# Altium schematic symbol library Connectors.SchLib: 163 symbols
Pins are listed as number, name and electrical type; pins without a type are passive.

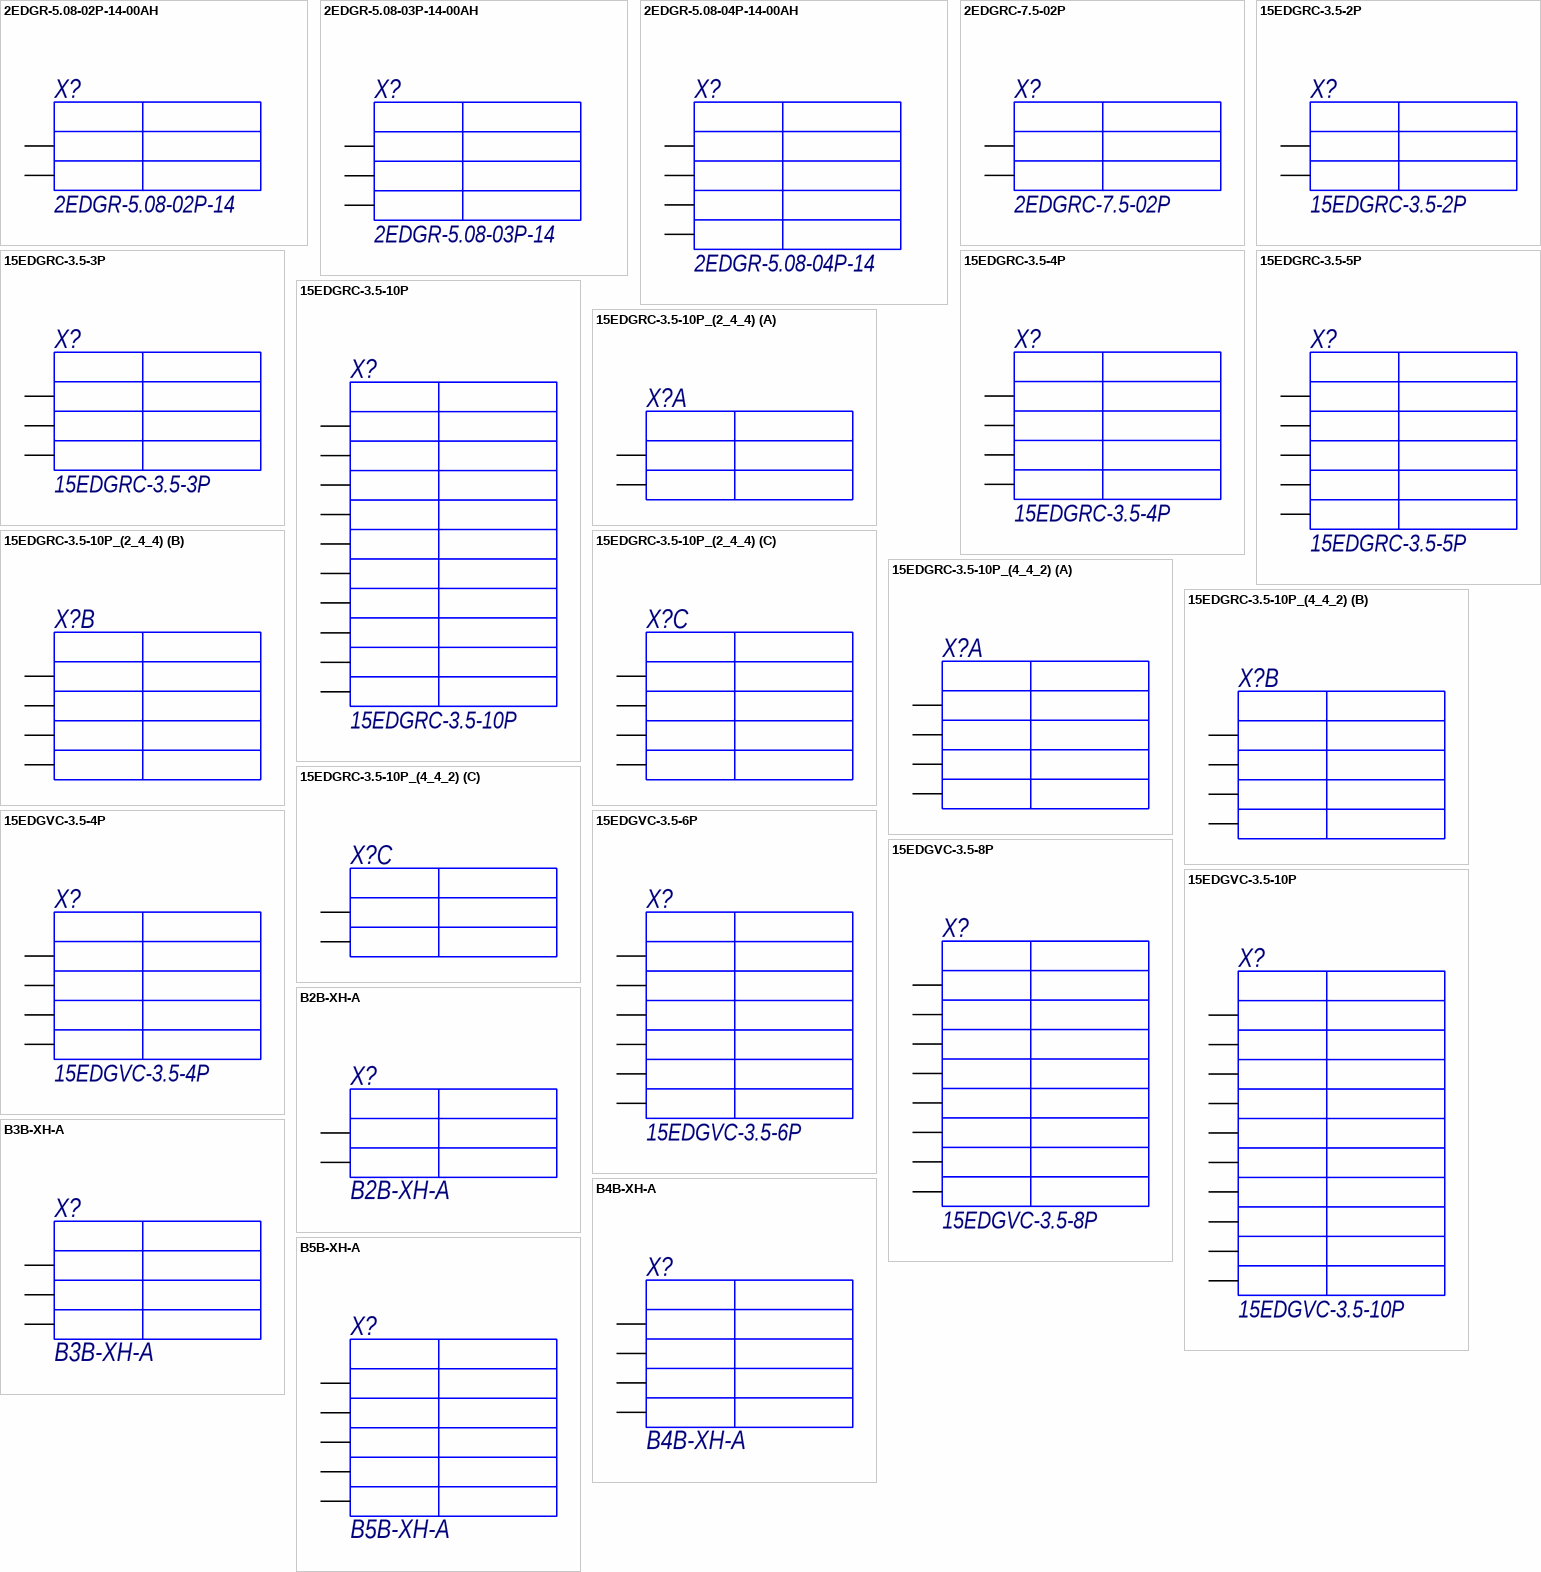
[diagram p0: symbols 2EDGR-5.08-02P-14-00AH to B5B-XH-A]

## 2EDGR-5.08-02P-14-00AH
designator X?, comment 2EDGR-5.08-02P-14
Разъем разрывной; ComponentDescription: Разъём, 2EDGR-5.08-02P-14; ComponentTypе: Разъём
footprint 2EDGR-5.08-02P-14-00AH
pins: 1, 2

## 2EDGR-5.08-03P-14-00AH
designator X?, comment 2EDGR-5.08-03P-14
Разъем разрывной; ComponentDescription: Разъём, 2EDGR-5.08-03P-14; ComponentTypе: Разъём
footprint 2EDGR-5.08-03P-14-00AH
pins: 1, 2, 3

## 2EDGR-5.08-04P-14-00AH
designator X?, comment 2EDGR-5.08-04P-14
Разъем разрывной; ComponentDescription: Разъём, 2EDGR-5.08-04P-14; ComponentTypе: Разъём
footprint 2EDGR-5.08-04P-14-00AH
pins: 1, 2, 3, 4

## 2EDGRC-7.5-02P
designator X?
Разъем разрывной; ComponentDescription: Разъём, 2EDGRC-7.5-02P; ComponentTypе: Разъём
footprint 2EDGRC-7.5-02P
pins: 1, 2

## 15EDGRC-3.5-2P
designator X?
Разъем разрывной; ComponentDescription: Разъем разрывной, 15EDGRC-3.5-2P; ComponentTypе: Разъем разрывной
footprint 15EDGRC-3.5-2P-PAK
pins: 1, 2

## 15EDGRC-3.5-3P
designator X?
Разъем разрывной; ComponentDescription: Разъем разрывной, 15EDGRC-3.5-3P; ComponentTypе: Разъем разрывной
footprint 15EDGRC-3.5-3P-PAK
pins: 1, 2, 3

## 15EDGRC-3.5-4P
designator X?
Разъем разрывной; ComponentDescription: Разъем разрывной, 15EDGRC-3.5-4P; ComponentTypе: Разъем разрывной
footprint 15EDGRC-3.5-4P-PAK
pins: 1, 2, 3, 4

## 15EDGRC-3.5-5P
designator X?
Разъем разрывной; ComponentDescription: Разъем разрывной, 15EDGRC-3.5-5P; ComponentTypе: Разъем разрывной
footprint 15EDGRC-3.5-5P-PAK
pins: 1, 2, 3, 4, 5

## 15EDGRC-3.5-10P
designator X?
Разъем разрывной; ComponentDescription: Разъем разрывной, 15EDGRC-3.5-10P; ComponentTypе: Разъем разрывной
footprint 15EDGRC-3.5-10P-PAK
pins: 1, 2, 3, 4, 5, 6, 7, 8, 9, 10

## 15EDGRC-3.5-10P_(2_4_4)
designator X?, comment 15EDGRC-3.5-10P  (value not drawn)
Разъем разрывной; ComponentDescription: Разъем разрывной, 15EDGRC-3.5-10P; ComponentTypе: Разъем разрывной
footprint 15EDGRC-3.5-10P-PAK
part A pins: 1, 2
part B pins: 3, 4, 5, 6
part C pins: 7, 8, 9, 10

## 15EDGRC-3.5-10P_(4_4_2)
designator X?, comment 15EDGRC-3.5-10P  (value not drawn)
Разъем разрывной; ComponentDescription: Разъем разрывной, 15EDGRC-3.5-10P; ComponentTypе: Разъем разрывной
footprint 15EDGRC-3.5-10P-PAK
part A pins: 1, 2, 3, 4
part B pins: 5, 6, 7, 8
part C pins: 9, 10

## 15EDGVC-3.5-4P
designator X?
Разъем разрывной; ComponentDescription: Разъем разрывной, 15EDGVC-3.5-4P; ComponentTypе: Разъем разрывной
footprint 15EDGVC-3.5-04P-14
footprint 15EDGVC-3.5-04P-14_FULL_KA
pins: 1, 2, 3, 4

## 15EDGVC-3.5-6P
designator X?
Разъем разрывной; ComponentDescription: Разъем разрывной, 15EDGVC-3.5-6P; ComponentTypе: Разъем разрывной
footprint 15EDGVC-3.5-06P-14
footprint 15EDGVC-3.5-06P-14_FULL_KA
pins: 1, 2, 3, 4, 5, 6

## 15EDGVC-3.5-8P
designator X?
Разъем разрывной; ComponentDescription: Разъем разрывной, 15EDGVC-3.5-8P; ComponentTypе: Разъем разрывной
footprint 15EDGVC-3.5-08P-14
footprint 15EDGVC-3.5-08P-14 _FULL_KA
pins: 1, 2, 3, 4, 5, 6, 7, 8

## 15EDGVC-3.5-10P
designator X?
Разъем разрывной; ComponentDescription: Разъем разрывной, 15EDGVC-3.5-10P; ComponentTypе: Разъем разрывной
footprint 15EDGVC-3.5-10P-14
footprint 15EDGVC-3.5-10P-14_FULL_KA
pins: 1, 2, 3, 4, 5, 6, 7, 8, 9, 10

## B2B-XH-A
designator X?
Разъём; ComponentDescription: Разъём, B2B-XH-A; ComponentTypе: Разъём
footprint B2B-XH-A (Вилка прямая на плату 2.5мм)
pins: 1, 2

## B3B-XH-A
designator X?
Разъём; ComponentDescription: Разъём, B3B-XH-A; ComponentTypе: Разъём
footprint B3B-XH-A (Вилка прямая на плату 2.5мм)
pins: 1, 2, 3

## B4B-XH-A
designator X?
Разъём; ComponentDescription: Разъём, B4B-XH-A; ComponentTypе: Разъём
footprint B4B-XH-A (Вилка прямая на плату 2.5мм)
pins: 1, 2, 3, 4

## B5B-XH-A
designator X?
Разъём; ComponentDescription: Разъём, B5B-XH-A; ComponentTypе: Разъём
footprint B5B-XH-A (Вилка прямая на плату 2.5мм)
pins: 1, 2, 3, 4, 5

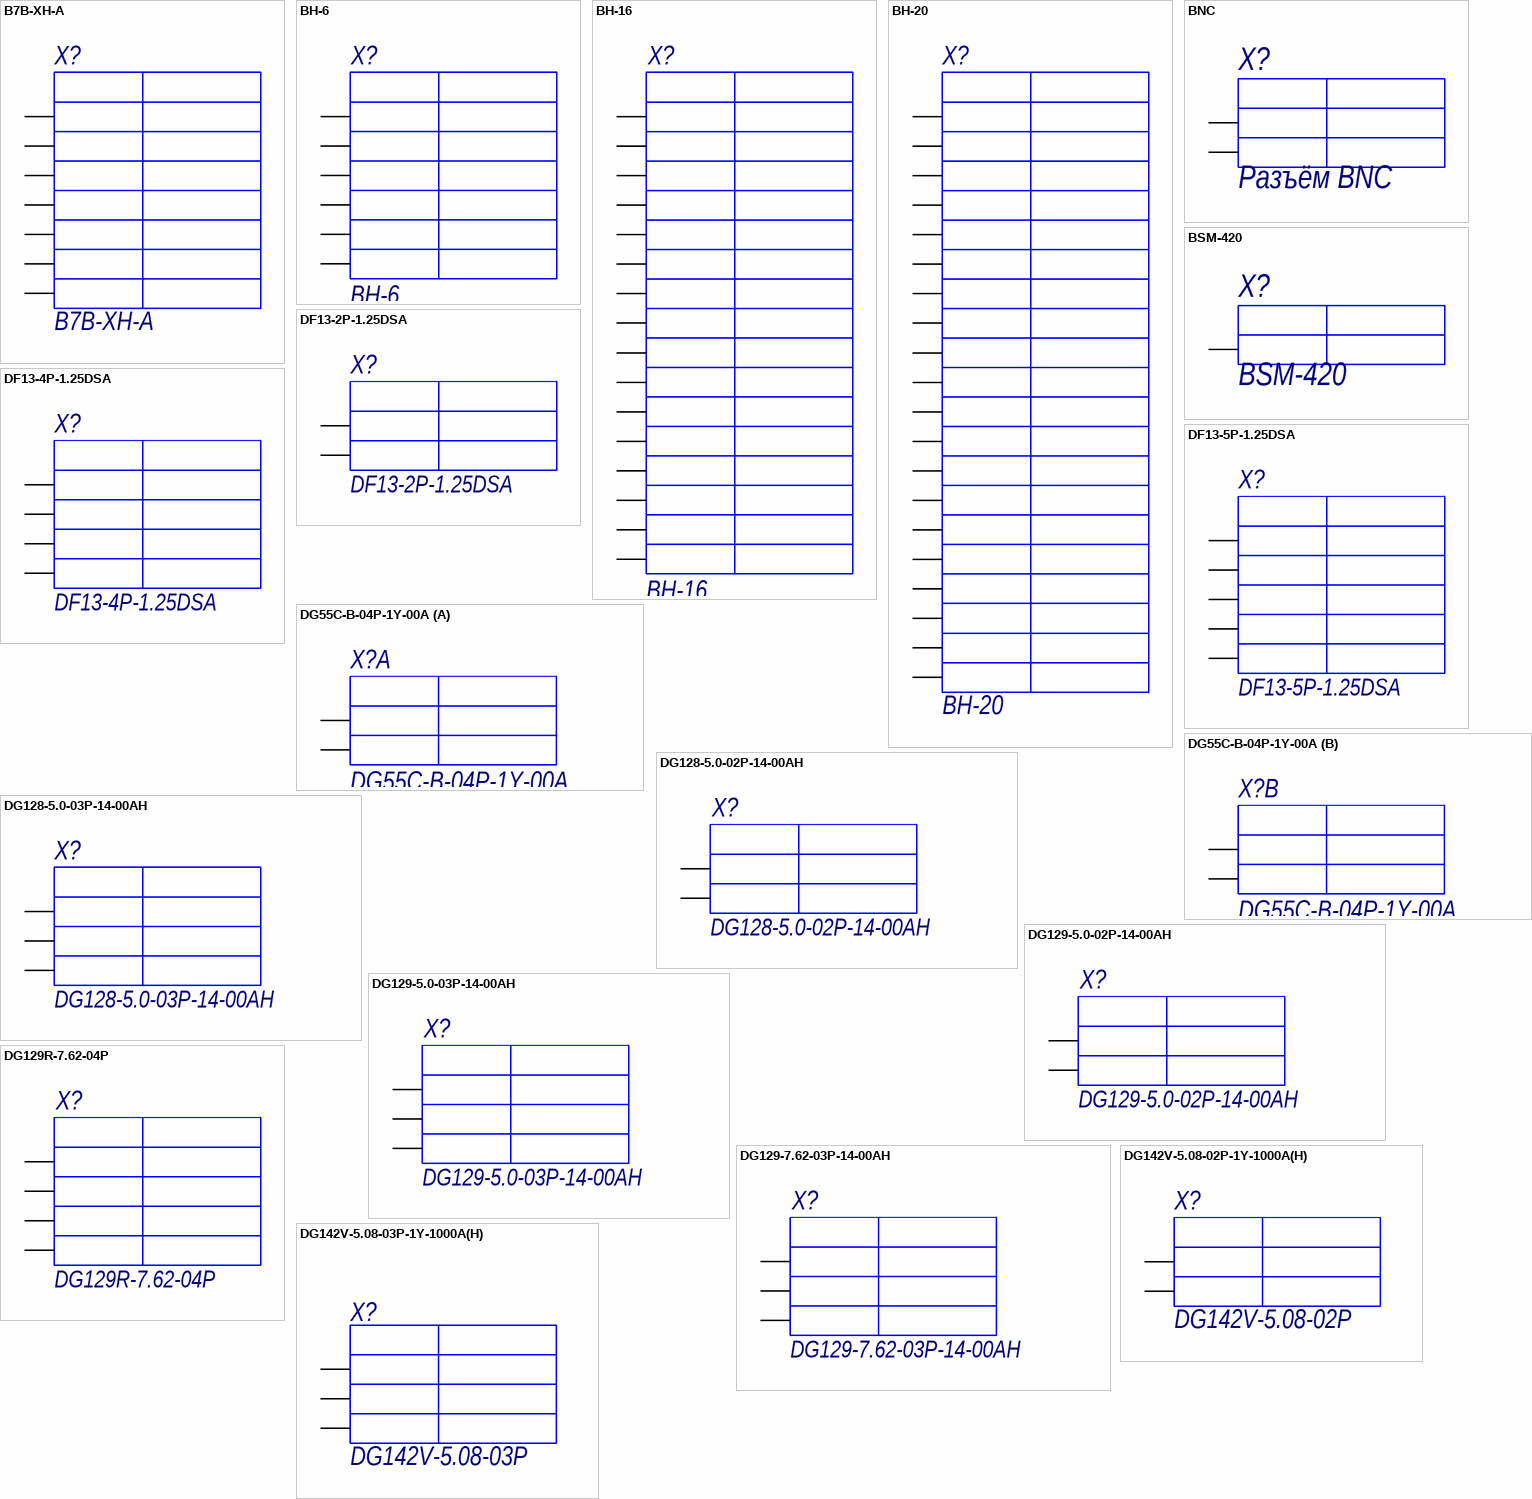
[diagram p1: symbols B7B-XH-A to DG142V-5.08-03P-1Y-1000A(H)]

## B7B-XH-A
designator X?
Разъём; ComponentDescription: Разъём, B7B-XH-A; ComponentTypе: Разъём
footprint B7B-XH-A (Вилка прямая на плату 2.5мм)
pins: 1, 2, 3, 4, 5, 6, 7

## BH-6
designator X?
Разъем BH-6; ComponentDescription: Разъём, BH-6; ComponentTypе: Разъём
footprint BH-6
footprint BH-06R
pins: 1, 2, 3, 4, 5, 6

## BH-16
designator X?
Разъем BH-16; ComponentDescription: , BH-16
footprint BH-16
pins: 1, 2, 3, 4, 5, 6, 7, 8, 9, 10, 11, 12, 13, 14, 15, 16

## BH-20
designator X?
Разъем BH-20; ComponentDescription: Разъём, BH-20; ComponentTypе: Разъём
footprint BH-20
pins: 1, 2, 3, 4, 5, 6, 7, 8, 9, 10, 11, 12, 13, 14, 15, 16, 17, 18, 19, 20

## BNC
designator X?, comment Разъём BNC
Разъём; PartNumber: 32K249-400L5; Design Note: Footprint in library is a generic example - only application specific footprint delivers High Performance; ComponentDescription: Разъём антенный, Разъём BNC; ComponentTypе: Разъём антенный; DatasheetVersion: b00; PackageVersion: b00; PackageReference: 32K249-400L5; PackageDescription: SMA Right Angle Jack, 14.8 x 6.35 x 9.7 mm; Mounting Technology: Through Hole; ComponentLink1Description: Manufacturer URL; ComponentLink1URL: http://www.rosenberger.de; ComponentLink2Description: Datasheet; ComponentLink2URL: http://rosenberger.de/ok/images/documents/db/32K249-400L5.pdf; ComponentLink3Description: Package Specification; ComponentLink3URL: http://rosenberger.de/ok/images/documents/db/32K249-400L5.pdf; ComponentLink4Description: Series Overview / Design Note; ComponentLink4URL: http://rosenberger.de/ok/images/documents/spez/32.pdf; ComponentLink5Description: Webshop / RFQ; ComponentLink5URL: http://www.rosenberger.com/en/contact/sales/
footprint BNC
pins: 1, 2

## BSM-420
designator X?
Разъём; PartNumber: 32K249-400L5; Design Note: Footprint in library is a generic example - only application specific footprint delivers High Performance; ComponentDescription: Разъём антенный, BSM-420; ComponentTypе: Разъём антенный; DatasheetVersion: b00; PackageVersion: b00; PackageReference: 32K249-400L5; PackageDescription: SMA Right Angle Jack, 14.8 x 6.35 x 9.7 mm; Mounting Technology: Through Hole; ComponentLink1Description: Manufacturer URL; ComponentLink1URL: http://www.rosenberger.de; ComponentLink2Description: Datasheet; ComponentLink2URL: http://rosenberger.de/ok/images/documents/db/32K249-400L5.pdf; ComponentLink3Description: Package Specification; ComponentLink3URL: http://rosenberger.de/ok/images/documents/db/32K249-400L5.pdf; ComponentLink4Description: Series Overview / Design Note; ComponentLink4URL: http://rosenberger.de/ok/images/documents/spez/32.pdf; ComponentLink5Description: Webshop / RFQ; ComponentLink5URL: http://www.rosenberger.com/en/contact/sales/
footprint BSM-420-R (BSM-420-R угловой красный)
footprint BSM-420-B (BSM-420-B угловой черный)
pins: 1

## DF13-2P-1.25DSA
designator X?
Разъем; ComponentDescription: Разъём, DF13-2P-1.25DSA; ComponentTypе: Разъём
footprint DF13-2P-1.25DSA(20)
pins: 1, 2

## DF13-4P-1.25DSA
designator X?
Разъем; ComponentDescription: Разъём, DF13-4P-1.25DSA; ComponentTypе: Разъём
footprint DF13-4P-1.25DSA(20)
pins: 1, 2, 3, 4

## DF13-5P-1.25DSA
designator X?
Разъем; ComponentDescription: Разъём, DF13-5P-1.25DSA; ComponentTypе: Разъём
footprint DF13-5P-1.25DSA(20)
pins: 1, 2, 3, 4, 5

## DG55C-B-04P-1Y-00A
designator X?
Разъём винтовой; ComponentDescription: Разъём винтовой, DG55C-B-04P-1Y-00A; ComponentTypе: Разъём винтовой
footprint DG55C-B-04P-1Y-00A
part A pins: 1, 2
part B pins: 3, 4

## DG128-5.0-02P-14-00AH
designator X?
Разъем винтовой; ComponentDescription: Разъем винтовой, DG128-5.0-02P-14-00AH; ComponentTypе: Разъем винтовой
footprint DG128-5.0-02P-14-00AH
pins: 1, 2

## DG128-5.0-03P-14-00AH
designator X?
footprint DG128-5.0-03P-14-00AH
pins: 1, 2, 3

## DG129-5.0-02P-14-00AH
designator X?
Разъем винтовой; ComponentDescription: Разъем винтовой, DG129-5.0-02P-14-00AH; ComponentTypе: Разъем винтовой
footprint DG129-5.0-02P-14-00AH
pins: 1, 2

## DG129-5.0-03P-14-00AH
designator X?
Разъем винтовой; ComponentDescription: Разъем винтовой, DG129-5.0-03P-14-00AH; ComponentTypе: Разъем винтовой
footprint DG129-5.0-03P-14-00AH
pins: 1, 2, 3

## DG129-7.62-03P-14-00AH
designator X?
Разъем винтовой; ComponentDescription: Разъем винтовой, DG129-7.62-03P-14-00AH; ComponentTypе: Разъем винтовой
footprint DG129-7.62-03P-14-00AH
pins: 1, 2, 3
1 alternate drawing of the same symbol

## DG129R-7.62-04P
designator X?
Разъем; ComponentDescription: Разъем разрывной, DG129R-7.62-04P; ComponentTypе: Разъем разрывной
footprint DG129R-7.62-04P-1Y-00A(H)-T0-1-HOLE-2.5MM
pins: 1, 2, 3, 4

## DG142V-5.08-02P-1Y-1000A(H)
designator X?, comment DG142V-5.08-02P
Разъём; ComponentDescription: Разъём, DG142V-5.08-02P; ComponentTypе: Разъём
footprint DG142V-5.08-02P-1Y-1000A(H) (DG142V-5.08-10060000532)
pins: 1, 2

## DG142V-5.08-03P-1Y-1000A(H)
designator X?, comment DG142V-5.08-03P
Разъём; ComponentDescription: Разъём, DG142V-5.08-03P; ComponentTypе: Разъём
footprint DG142V-5.08-03P-1Y-1000A(H) (DG142V-5.08-10060000533)
pins: 1, 2, 3

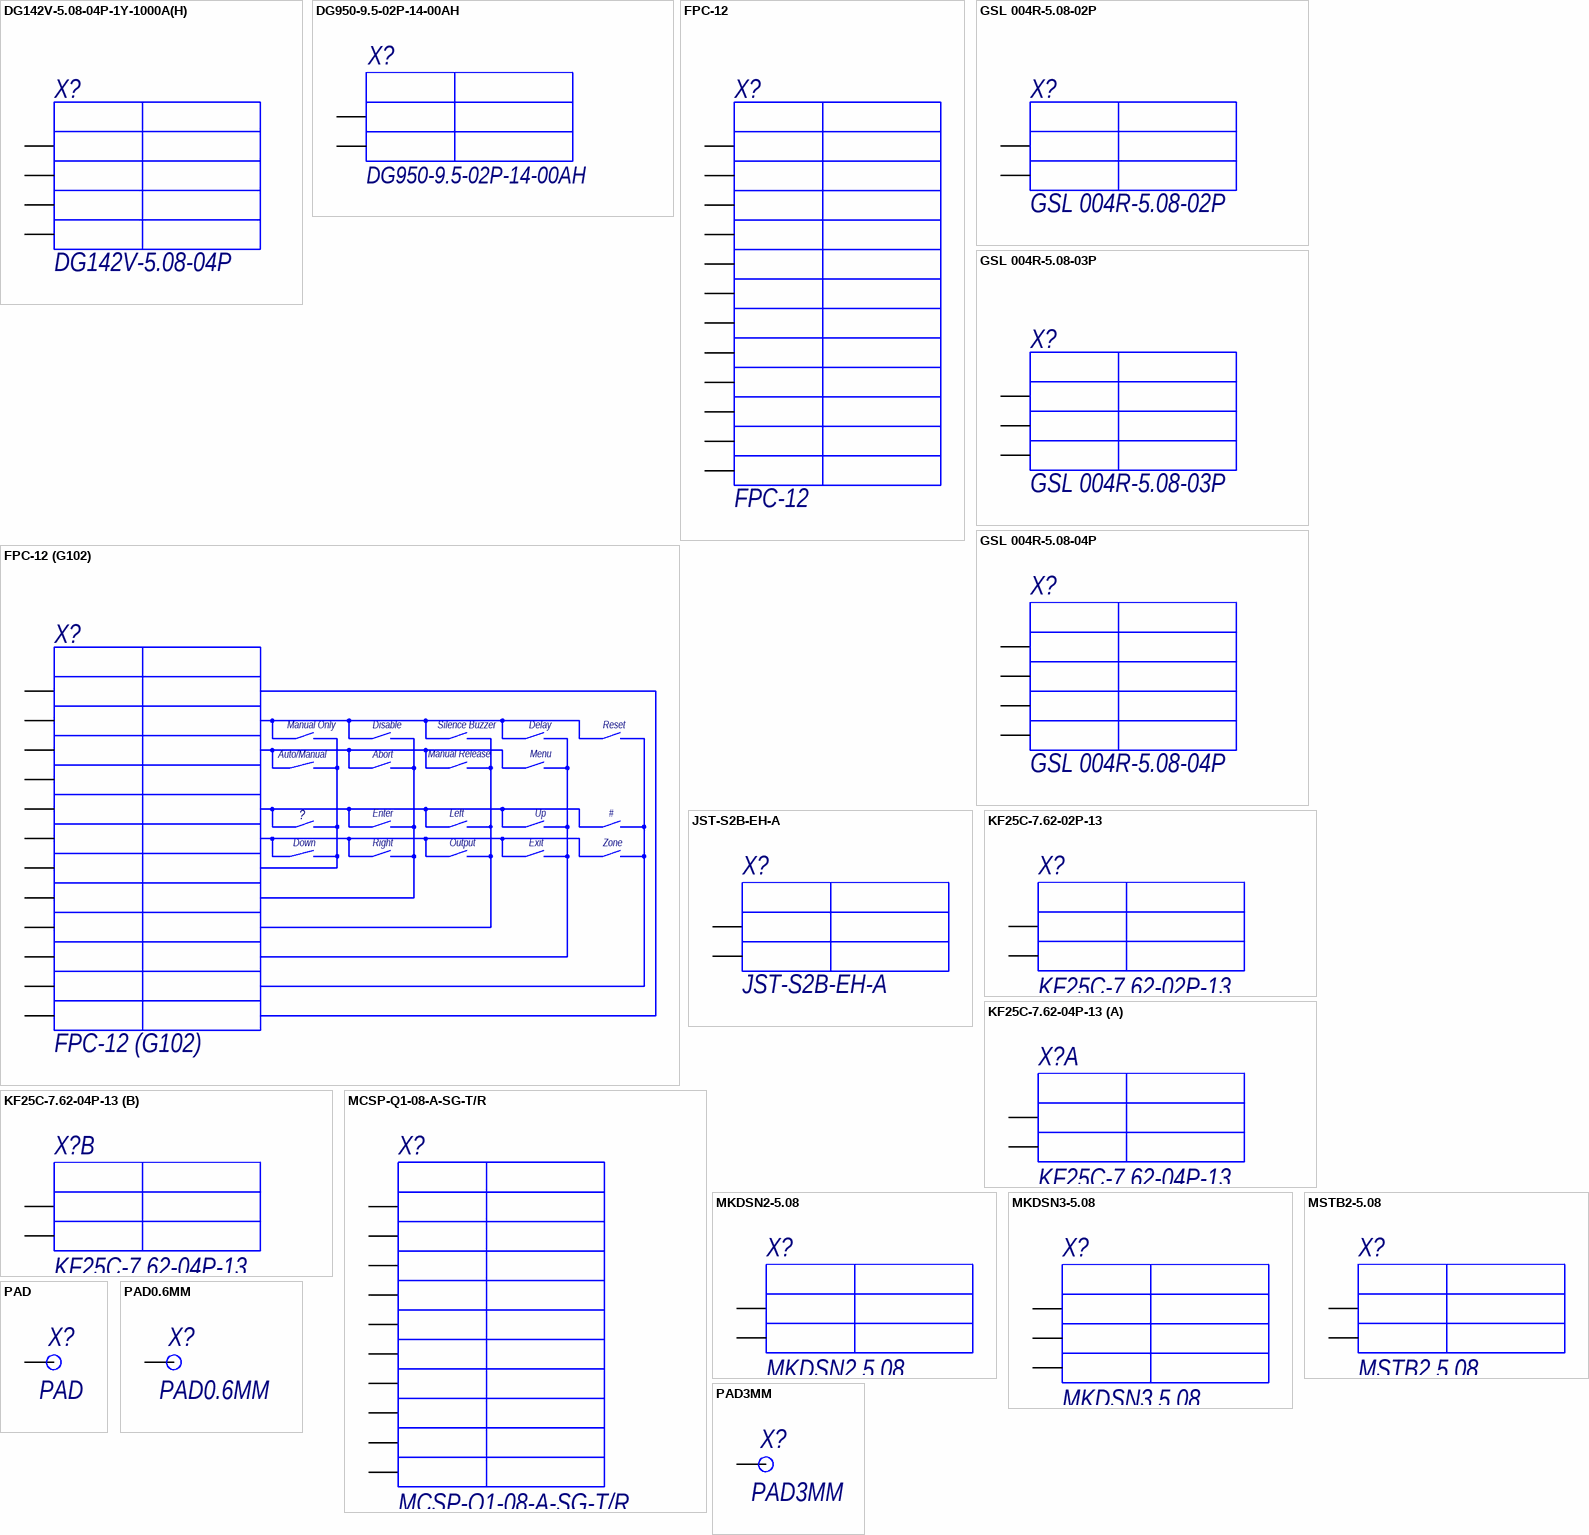
[diagram p2: symbols DG142V-5.08-04P-1Y-1000A(H) to PAD3MM]

## DG142V-5.08-04P-1Y-1000A(H)
designator X?, comment DG142V-5.08-04P
Разъём; ComponentDescription: Разъём, DG142V-5.08-04P; ComponentTypе: Разъём
footprint DG142V-5.08-04P-1Y-1000A(H) (DG142V-5.08-10060000534)
pins: 1, 2, 3, 4

## DG950-9.5-02P-14-00AH
designator X?
Разъем винтовой; ComponentDescription: Разъем винтовой, DG950-9.5-02P-14-00AH; ComponentTypе: Разъем винтовой
footprint DG950-9.5-02P-14-00AH
pins: 1, 2

## FPC-12
designator X?
Разъём FPC-12; ComponentDescription: , FPC-12
footprint FPC-12
pins: 1, 2, 3, 4, 5, 6, 7, 8, 9, 10, 11, 12

## FPC-12 (G102)
designator X?
Разъём FPC-12 (Для платы G102); ComponentDescription: =ComponentTypе+', '+Package; ComponentTypе: Разъём
footprint FPC-12
pins: 1, 2, 3, 4, 5, 6, 7, 8, 9, 10, 11, 12
text: Manual Only; Disable; Silence Buzzer; Delay; Reset; Auto/Manual; Abort; Manual Release; Menu; Enter; Left; Up; #; ?; Down; Right; Output; Exit; Zone

## GSL 004R-5.08-02P
designator X?
Разъём; ComponentDescription: Разъём, GSL 004R-5.08-02P; ComponentTypе: Разъём
footprint GSL 004R-5.08-02P
pins: 1, 2

## GSL 004R-5.08-03P
designator X?
Разъём; ComponentDescription: Разъём, GSL 004R-5.08-03P; ComponentTypе: Разъём
footprint GSL 004R-5.08-03P
footprint GSL 004-5.08-03P
pins: 1, 2, 3

## GSL 004R-5.08-04P
designator X?
Разъём; ComponentDescription: Разъём, GSL 004R-5.08-04P; ComponentTypе: Разъём
footprint GSL 004R-5.08-04P
footprint GSL 004-5.08-04P
pins: 1, 2, 3, 4

## JST-S2B-EH-A
designator X?
Разъём; ComponentDescription: Разъём, JST-S2B-EH-A; ComponentTypе: Разъём
footprint JST-S2B-EH-A (Вилка прямая на плату 2.5мм)
pins: 1, 2

## KF25C-7.62-02P-13
designator X?
Разъём винтовой; ComponentDescription: Разъём винтовой, KF25C-7.62-02P-13; ComponentTypе: Разъём винтовой
footprint KF25C-7.62-02P-13
pins: 1, 2

## KF25C-7.62-04P-13
designator X?
Разъём винтовой; ComponentDescription: Разъём винтовой, KF25C-7.62-04P-13; ComponentTypе: Разъём винтовой
footprint KF25C-7.62-04P-13
part A pins: 1, 2
part B pins: 3, 4

## MCSP-Q1-08-A-SG-T/R
designator X?
Разъём MICRO SD; ComponentDescription: Разъём MICRO SD, MCSP-Q1-08-A-SG-T/R; ComponentTypе: Разъём MICRO SD
footprint MR01A-01211(SD) (SD-MR01A-01211)
pins: 1 DAT2, 2 DAT3, 3 CMD/MOSI, 4 VDD, 5 CLK/SCK, 6 VSS, 7 DAT0/MISO, 8 DAT1, 9 CD, 10 MH

## MKDSN2-5.08
designator X?, comment MKDSN2 5.08
Разъём винтовой; ComponentDescription: Разъём винтовой, MKDSN2 5.08; ComponentTypе: Разъём винтовой
footprint MKDSN2-5.08
pins: 1, 2

## MKDSN3-5.08
designator X?, comment MKDSN3 5.08
Разъём винтовой; ComponentDescription: Разъём винтовой, MKDSN3 5.08; ComponentTypе: Разъём винтовой
footprint MKDSN3-5.08
pins: 1, 2, 3

## MSTB2-5.08
designator X?, comment MSTB2 5.08
Разъём винтовой; ComponentDescription: Разъём винтовой, MSTB2 5.08; ComponentTypе: Разъём винтовой
footprint MSTB2-5.08
pins: 1, 2

## PAD
designator X?  (net tie, no BOM)
Контакт
footprint PAD_TOP_10x10 (Контак на плате)
footprint PAD2MM (Контак на плате, диаметр 2 мм)
pins: 1

## PAD0.6MM
designator X?  (net tie, no BOM)
Контакт
footprint PAD0.6MM (Контак на плате, диаметр 0.6 мм)
pins: 1

## PAD3MM
designator X?  (net tie, no BOM)
Контакт
footprint PAD3MM (Контак на плате, диаметр 3 мм)
pins: 1

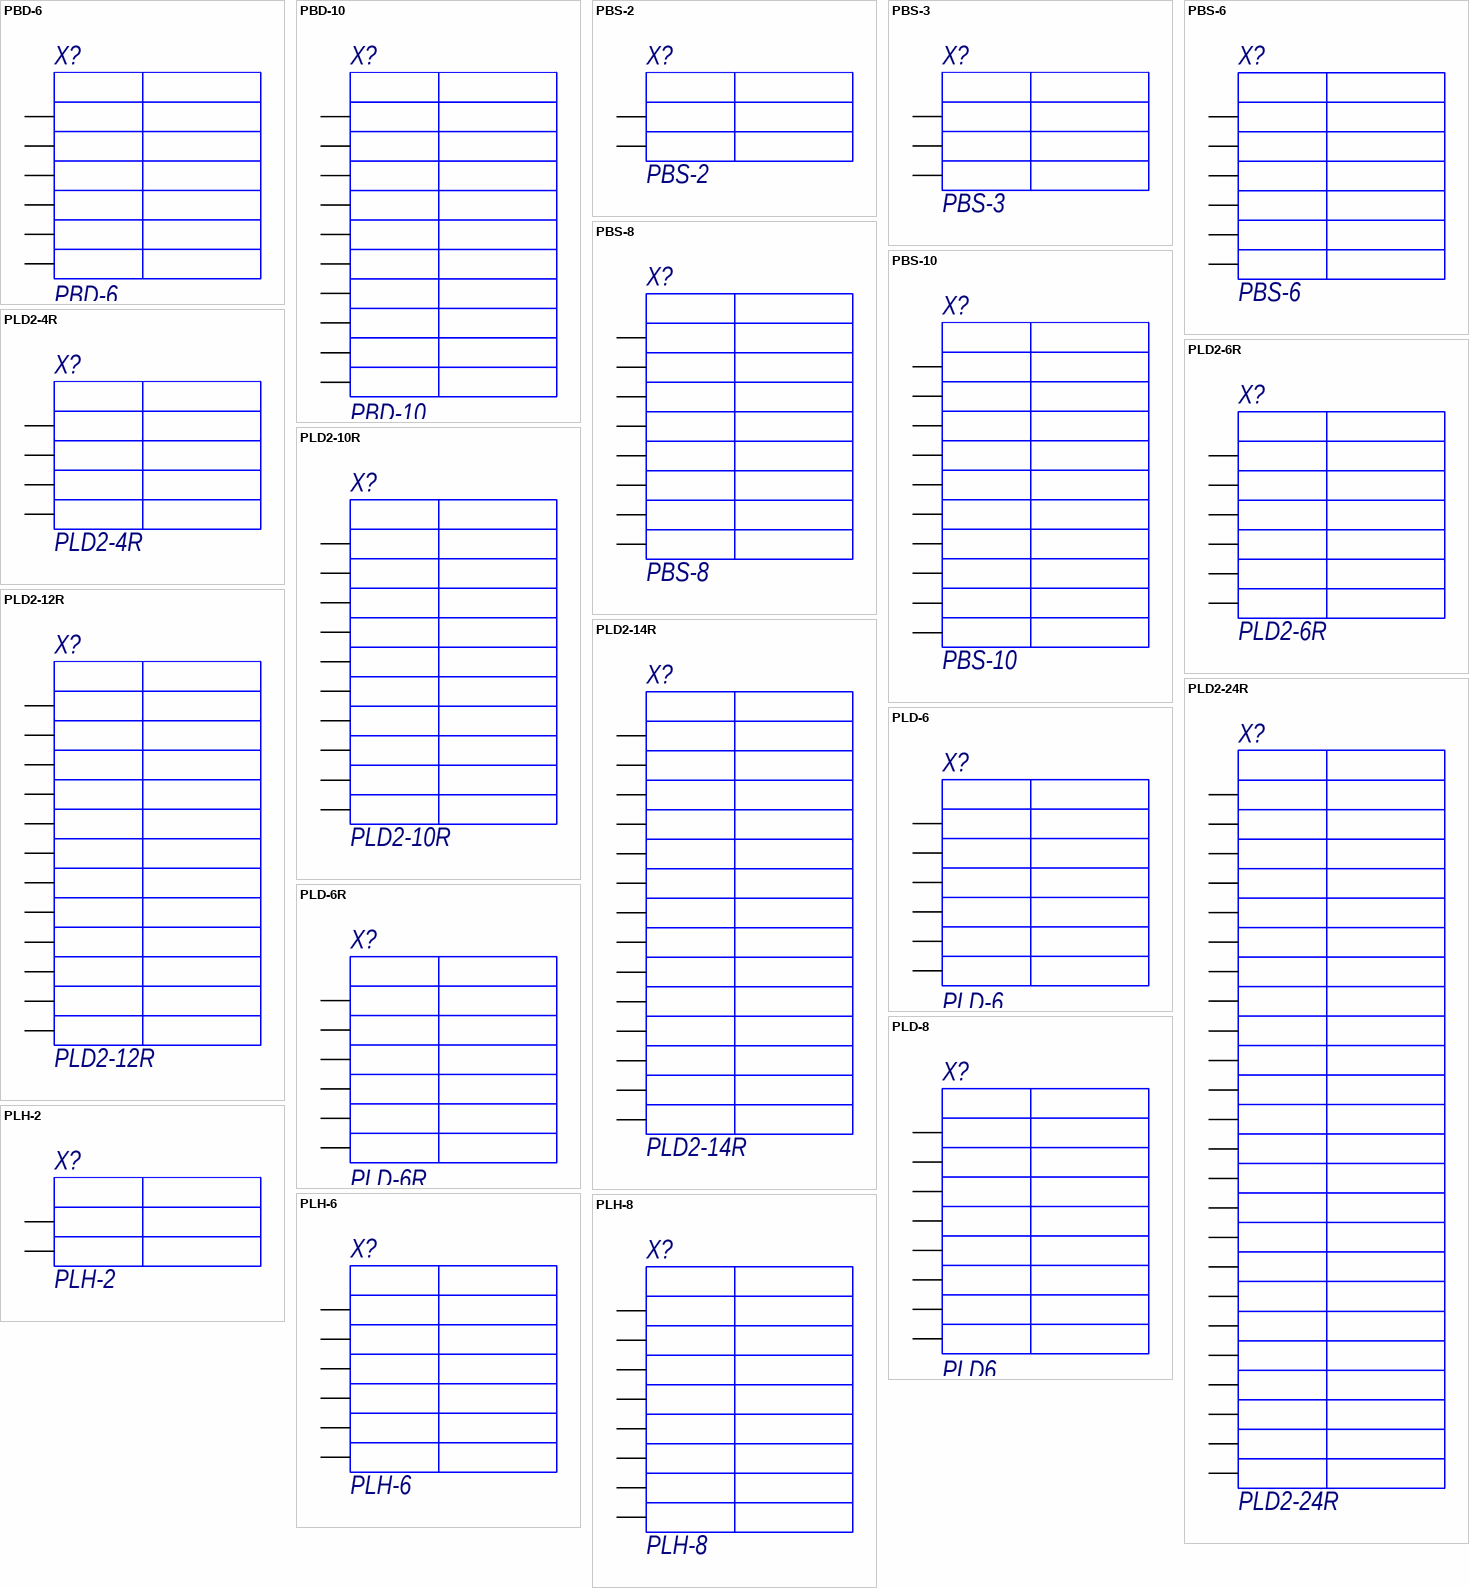
[diagram p3: symbols PBD-6 to PLH-8]

## PBD-6
designator X?
Разъём штыревой (мама); ComponentDescription: Разъём штыревой (мама), PBD-6; ComponentTypе: Разъём штыревой (мама)
footprint PBD-6
pins: 1, 2, 3, 4, 5, 6

## PBD-10
designator X?
Разъём штыревой (мама); ComponentDescription: Разъём штыревой (мама), PBD-10; ComponentTypе: Разъём штыревой (мама)
footprint PBD-10
pins: 1, 2, 3, 4, 5, 6, 7, 8, 9, 10

## PBS-2
designator X?
Разъём штыревой; ComponentDescription: Разъём штыревой, PBS-2; ComponentTypе: Разъём штыревой
footprint PBS-2
pins: 1, 2

## PBS-3
designator X?
Разъём штыревой; ComponentDescription: Разъём штыревой, PBS-3; ComponentTypе: Разъём штыревой
footprint PBS-3
pins: 1, 2, 3

## PBS-6
designator X?
Разъём штыревой; ComponentDescription: Разъём штыревой, PBS-6; ComponentTypе: Разъём штыревой
footprint PBS-6
pins: 1, 2, 3, 4, 5, 6

## PBS-8
designator X?
Разъём штыревой; ComponentDescription: Разъём штыревой, PBS-8; ComponentTypе: Разъём штыревой
footprint PBS-8
pins: 1, 2, 3, 4, 5, 6, 7, 8

## PBS-10
designator X?
Разъём штыревой; ComponentDescription: Разъём штыревой, PBS-10; ComponentTypе: Разъём штыревой
footprint PBS-10
pins: 1, 2, 3, 4, 5, 6, 7, 8, 9, 10

## PLD2-4R
designator X?
Разъём штыревой (угловой); ComponentDescription: Разъём штыревой (угловой), PLD2-4R; ComponentTypе: Разъём штыревой (угловой)
footprint PLD2-4R (Шаг 2мм)
pins: 1, 2, 3, 4

## PLD2-6R
designator X?
Разъём штыревой (угловой); ComponentDescription: Разъём штыревой (угловой), PLD2-6R; ComponentTypе: Разъём штыревой (угловой)
footprint PLD2-6R (Шаг 2мм)
pins: 1, 2, 3, 4, 5, 6

## PLD2-10R
designator X?
Разъём штыревой (угловой); ComponentDescription: Разъём штыревой (угловой), PLD2-10R; ComponentTypе: Разъём штыревой (угловой)
footprint PLD2-10R (Шаг 2мм)
pins: 1, 2, 3, 4, 5, 6, 7, 8, 9, 10

## PLD2-12R
designator X?
Разъём штыревой (угловой); ComponentDescription: Разъём штыревой (угловой), PLD2-12R; ComponentTypе: Разъём штыревой (угловой)
footprint PLD2-12R (Шаг 2мм)
pins: 1, 2, 3, 4, 5, 6, 7, 8, 9, 10, 11, 12

## PLD2-14R
designator X?
Разъём штыревой (угловой); ComponentDescription: Разъём штыревой (угловой), PLD2-14R; ComponentTypе: Разъём штыревой (угловой)
footprint PLD2-14R (Шаг 2мм)
pins: 1, 2, 3, 4, 5, 6, 7, 8, 9, 10, 11, 12, 13, 14

## PLD2-24R
designator X?
Разъём штыревой (угловой); ComponentDescription: Разъём штыревой (угловой), PLD2-24R; ComponentTypе: Разъём штыревой (угловой)
footprint PLD2-24R (Шаг 2мм)
pins: 1, 2, 3, 4, 5, 6, 7, 8, 9, 10, 11, 12, 13, 14, 15, 16, 17, 18, 19, 20, 21, 22, 23, 24

## PLD-6
designator X?
Разъём штыревой; ComponentDescription: Разъём штыревой, PLD-6; ComponentTypе: Разъём штыревой
footprint PLD-6
pins: 1, 2, 3, 4, 5, 6

## PLD-6R
designator X?
Разъём штыревой (угловой); ComponentDescription: Разъём штыревой (угловой), PLD-6R; ComponentTypе: Разъём штыревой (угловой)
footprint PLDR-6
pins: 1, 2, 3, 4, 5, 6

## PLD-8
designator X?, comment PLD6
Разъём штыревой; ComponentDescription: Разъём штыревой, PLD6; ComponentTypе: Разъём штыревой
footprint PLD-8
pins: 1, 2, 3, 4, 5, 6, 7, 8

## PLH-2
designator X?
Разъём штыревой; ComponentDescription: Разъём штыревой, PLH-2; ComponentTypе: Разъём штыревой
footprint PLH-2
pins: 1, 2

## PLH-6
designator X?
Разъём штыревой; ComponentDescription: Разъём штыревой, PLH-6; ComponentTypе: Разъём штыревой
footprint PLH-6
pins: 1, 2, 3, 4, 5, 6

## PLH-8
designator X?
Разъём штыревой; ComponentDescription: Разъём штыревой, PLH-8; ComponentTypе: Разъём штыревой
footprint PLH-8
pins: 1, 2, 3, 4, 5, 6, 7, 8

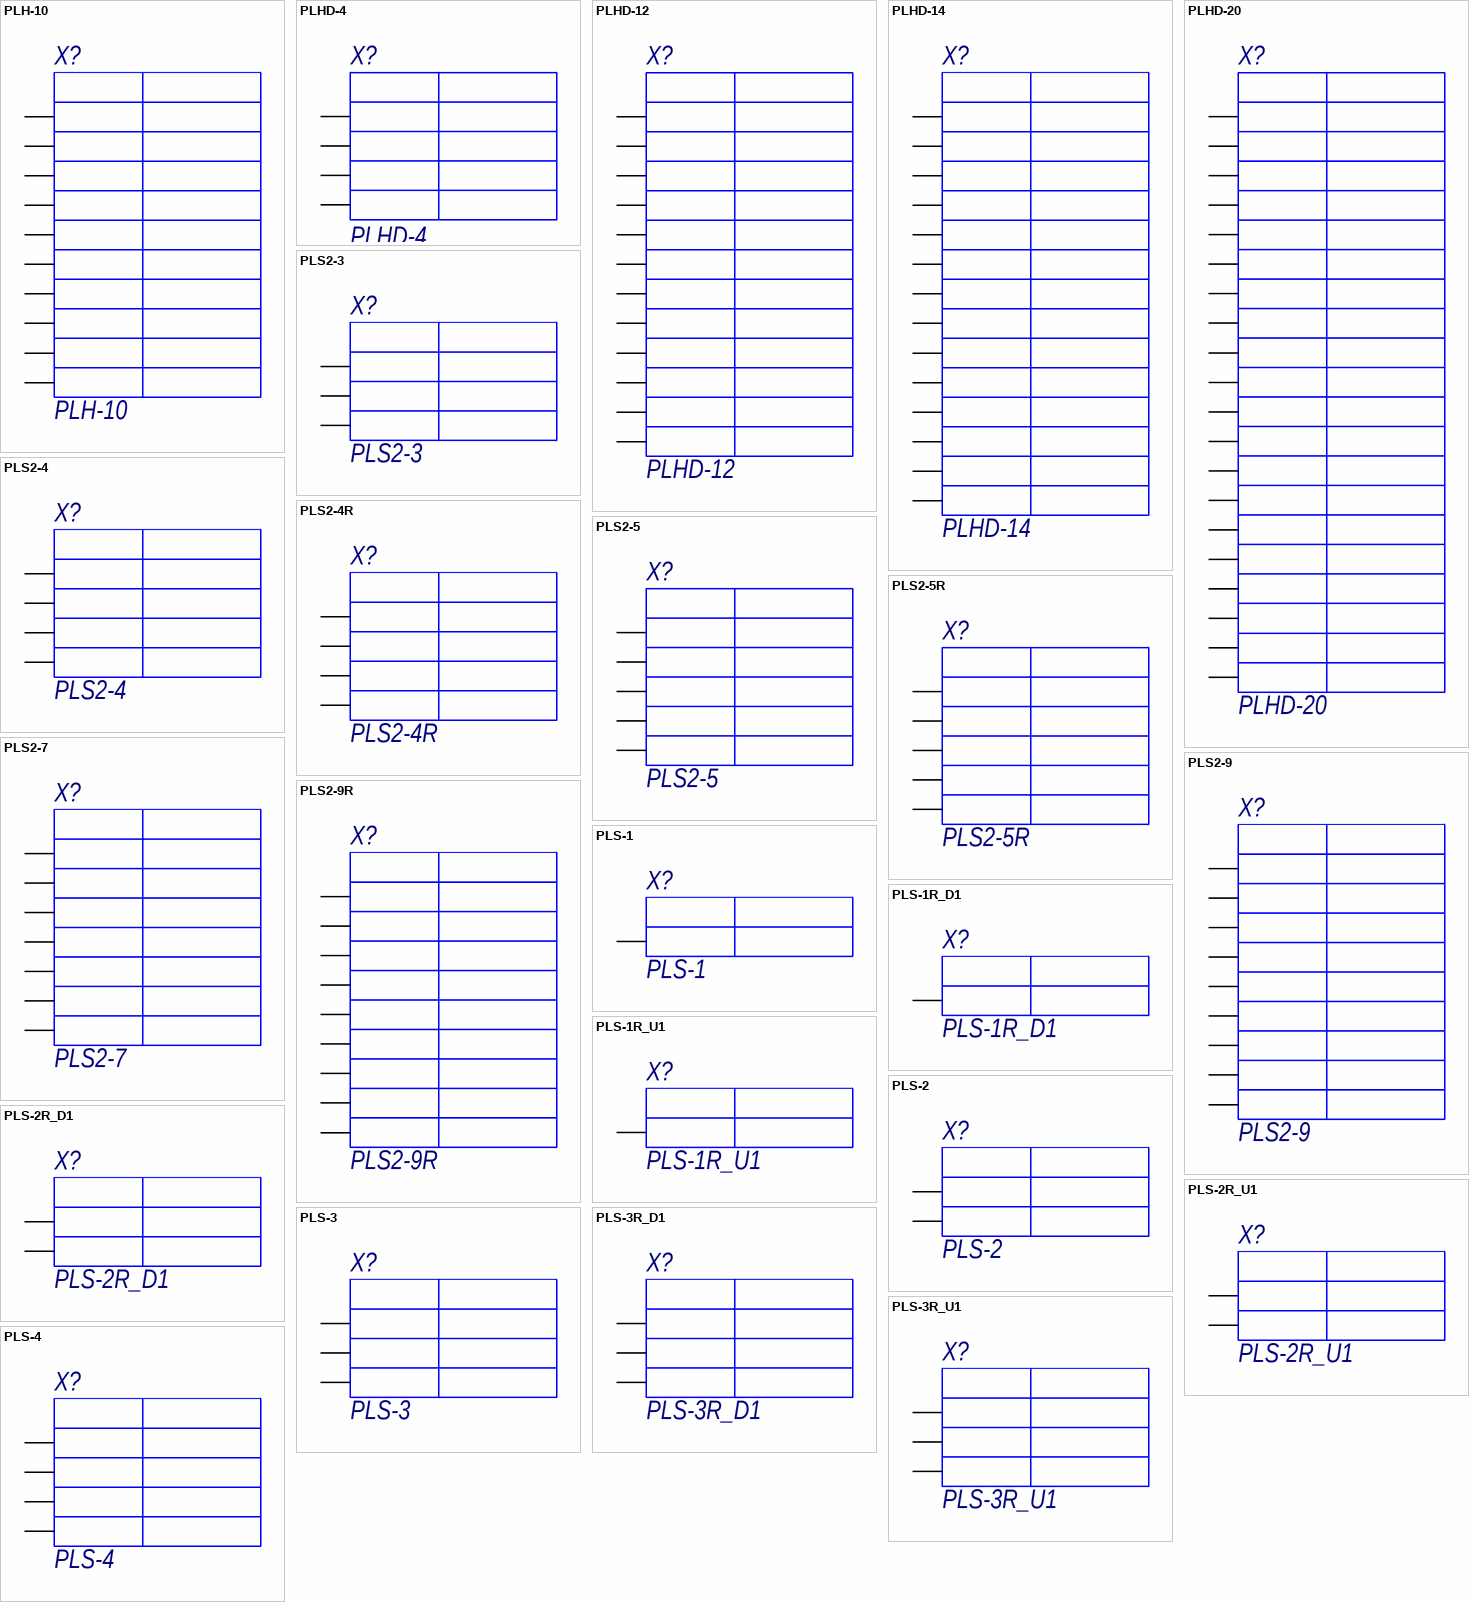
[diagram p4: symbols PLH-10 to PLS-4]

## PLH-10
designator X?
Разъём штыревой; ComponentDescription: Разъём штыревой, PLH-10; ComponentTypе: Разъём штыревой
footprint PLH-10
pins: 1, 2, 3, 4, 5, 6, 7, 8, 9, 10

## PLHD-4
designator X?
Разъём штыревой; ComponentDescription: Разъём штыревой, PLHD-4; ComponentTypе: Разъём штыревой
footprint PLHD-4
pins: 1, 2, 3, 4

## PLHD-12
designator X?
Разъём штыревой; ComponentDescription: Разъём штыревой, PLHD-12; ComponentTypе: Разъём штыревой
footprint PLHD-12
pins: 1, 2, 3, 4, 5, 6, 7, 8, 9, 10, 11, 12

## PLHD-14
designator X?
Разъём штыревой; ComponentDescription: Разъём штыревой, PLHD-14; ComponentTypе: Разъём штыревой
footprint PLHD-14
pins: 1, 2, 3, 4, 5, 6, 7, 8, 9, 10, 11, 12, 13, 14

## PLHD-20
designator X?
Разъём штыревой; ComponentDescription: Разъём штыревой, PLHD-20; ComponentTypе: Разъём штыревой
footprint PLHD-20
pins: 1, 2, 3, 4, 5, 6, 7, 8, 9, 10, 11, 12, 13, 14, 15, 16, 17, 18, 19, 20

## PLS2-3
designator X?
Разъём штыревой; ComponentDescription: Разъём штыревой, PLS2-3; ComponentTypе: Разъём штыревой
footprint PLS2-3 (Шаг 2мм)
pins: 1, 2, 3

## PLS2-4
designator X?
Разъём штыревой; ComponentDescription: Разъём штыревой, PLS2-4; ComponentTypе: Разъём штыревой
footprint PLS2-4 (Шаг 2мм)
pins: 1, 2, 3, 4

## PLS2-4R
designator X?
Разъём штыревой (угловой); ComponentDescription: Разъём штыревой (угловой), PLS2-4R; ComponentTypе: Разъём штыревой (угловой)
footprint PLS2-4R (Шаг 2мм)
pins: 1, 2, 3, 4

## PLS2-5
designator X?
Разъём штыревой; ComponentDescription: Разъём штыревой, PLS2-5; ComponentTypе: Разъём штыревой
footprint PLS2-5 (Шаг 2мм)
pins: 1, 2, 3, 4, 5

## PLS2-5R
designator X?
Разъём штыревой (угловой); ComponentDescription: Разъём штыревой (угловой), PLS2-5R; ComponentTypе: Разъём штыревой (угловой)
footprint PLS2-5R (Шаг 2мм)
pins: 1, 2, 3, 4, 5

## PLS2-7
designator X?
Разъём штыревой; ComponentDescription: Разъём штыревой, PLS2-7; ComponentTypе: Разъём штыревой
footprint PLS2-7 (Шаг 2мм)
pins: 1, 2, 3, 4, 5, 6, 7

## PLS2-9
designator X?
Разъём штыревой; ComponentDescription: Разъём штыревой, PLS2-9; ComponentTypе: Разъём штыревой
footprint PLS2-9 (Шаг 2мм)
pins: 1, 2, 3, 4, 5, 6, 7, 8, 9

## PLS2-9R
designator X?
Разъём штыревой (угловой); ComponentDescription: Разъём штыревой (угловой), PLS2-9R; ComponentTypе: Разъём штыревой (угловой)
footprint PLS2-9R (Шаг 2мм)
pins: 1, 2, 3, 4, 5, 6, 7, 8, 9

## PLS-1
designator X?
Разъём штыревой; ComponentDescription: Разъём штыревой, PLS-1; ComponentTypе: Разъём штыревой
footprint PLS-1
pins: 1

## PLS-1R_D1
designator X?
Разъём штыревой (угловой); ComponentDescription: Разъём штыревой, PLS-1R_D1; ComponentTypе: Разъём штыревой
footprint PLS-1R-D1
pins: 1

## PLS-1R_U1
designator X?
Разъём штыревой (угловой); ComponentDescription: Разъём штыревой, PLS-1R_U1; ComponentTypе: Разъём штыревой
footprint PLS-1R-U1
pins: 1

## PLS-2
designator X?
Разъём штыревой; ComponentDescription: Разъём штыревой, PLS-2; ComponentTypе: Разъём штыревой
footprint PLS-2
pins: 1, 2

## PLS-2R_D1
designator X?
Разъём штыревой (угловой); ComponentDescription: Разъём штыревой, PLS-2R_D1; ComponentTypе: Разъём штыревой
footprint PLS-2R-D1
pins: 1, 2

## PLS-2R_U1
designator X?
Разъём штыревой (угловой); ComponentDescription: Разъём штыревой, PLS-2R_U1; ComponentTypе: Разъём штыревой
footprint PLS-2R-U1
pins: 1, 2

## PLS-3
designator X?
Разъём штыревой; ComponentDescription: Разъём штыревой, PLS-3; ComponentTypе: Разъём штыревой
footprint PLS-3
pins: 1, 2, 3

## PLS-3R_D1
designator X?
Разъём штыревой (угловой); ComponentDescription: Разъём штыревой, PLS-3R_D1; ComponentTypе: Разъём штыревой
footprint PLS-3R-D1
pins: 1, 2, 3

## PLS-3R_U1
designator X?
Разъём штыревой (угловой); ComponentDescription: Разъём штыревой, PLS-3R_U1; ComponentTypе: Разъём штыревой
footprint PLS-3R-U1
pins: 1, 2, 3

## PLS-4
designator X?
Разъём штыревой; ComponentDescription: Разъём штыревой, PLS-4; ComponentTypе: Разъём штыревой
footprint PLS-4
pins: 1, 2, 3, 4

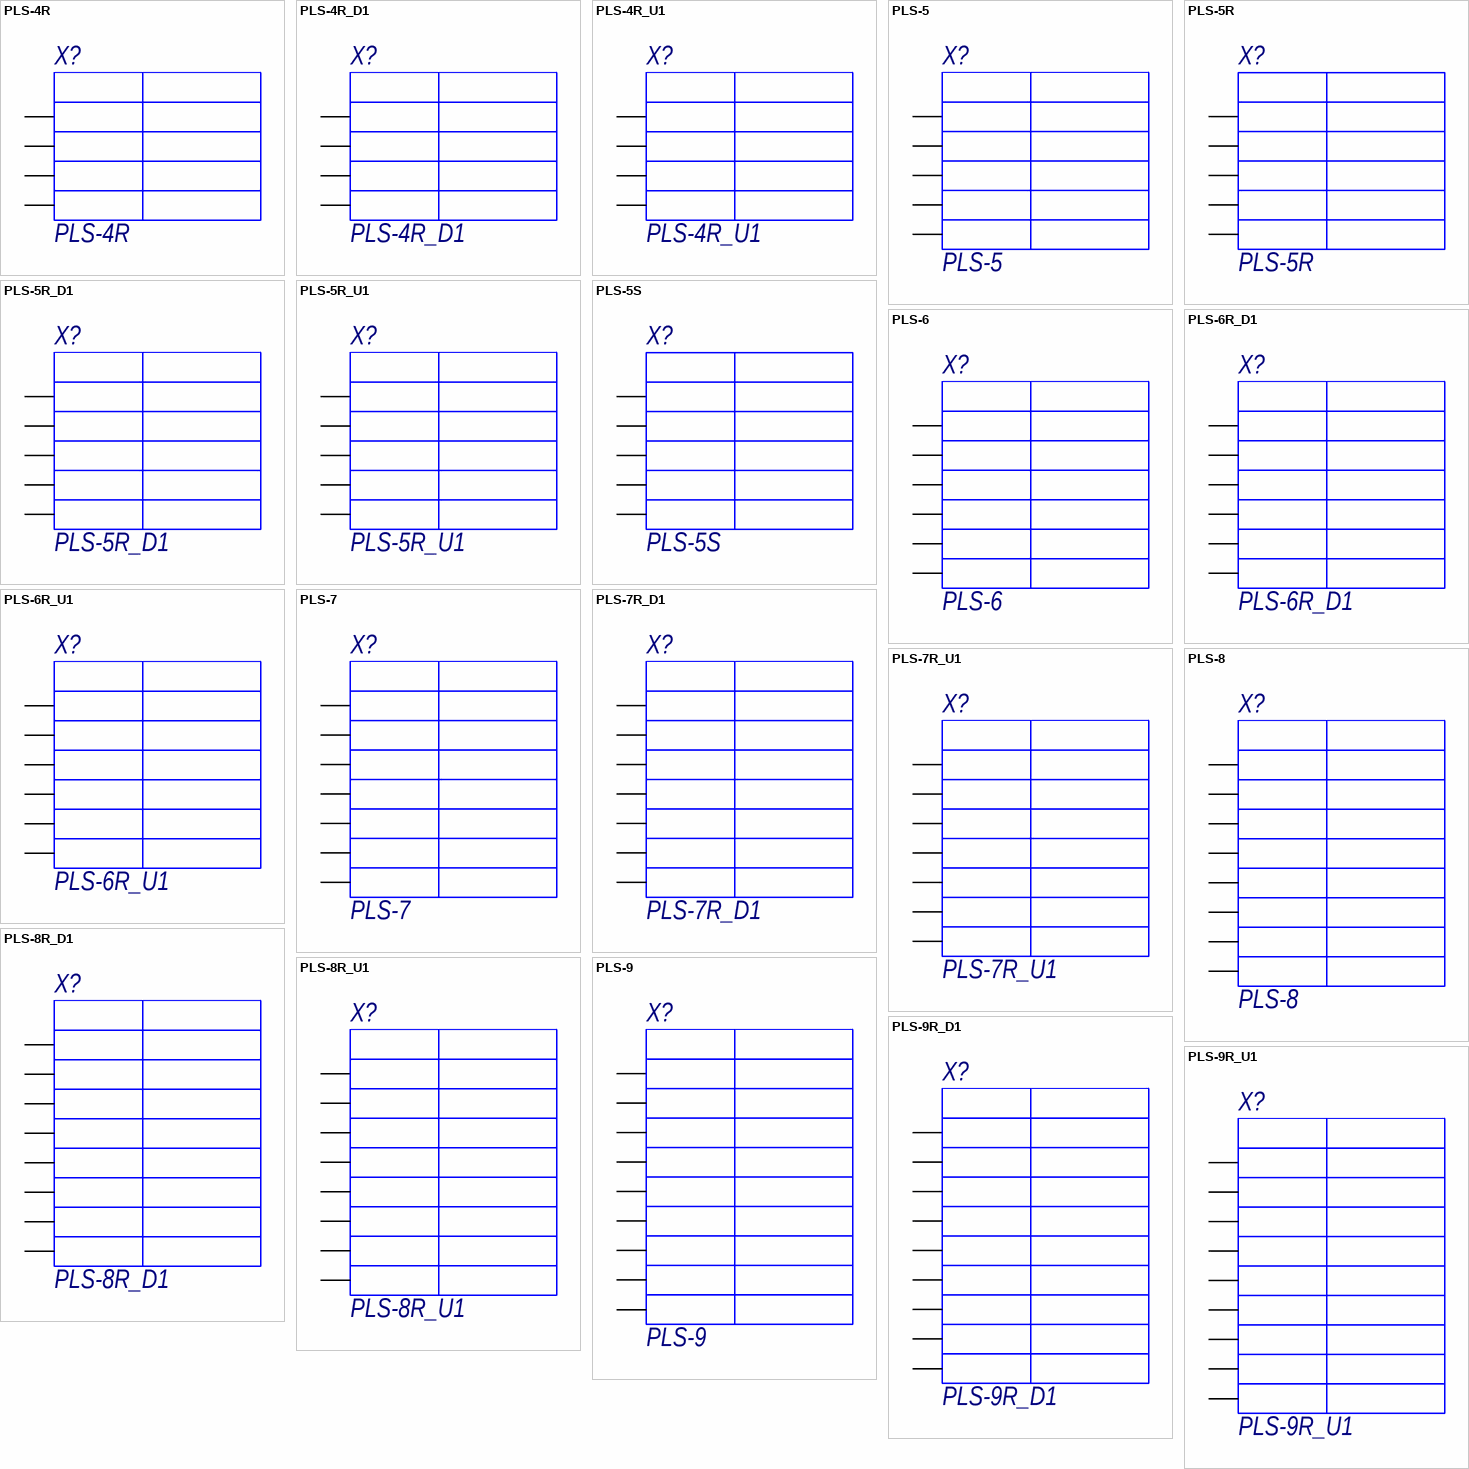
[diagram p5: symbols PLS-4R to PLS-9R_U1]

## PLS-4R
designator X?
Разъём штыревой (угловой); ComponentDescription: Разъём штыревой (угловой), PLS-4R; ComponentTypе: Разъём штыревой (угловой)
footprint PLS-4R
pins: 1, 2, 3, 4

## PLS-4R_D1
designator X?
Разъём штыревой (угловой); ComponentDescription: Разъём штыревой, PLS-4R_D1; ComponentTypе: Разъём штыревой
footprint PLS-4R-D1
pins: 1, 2, 3, 4

## PLS-4R_U1
designator X?
Разъём штыревой (угловой); ComponentDescription: Разъём штыревой, PLS-4R_U1; ComponentTypе: Разъём штыревой
footprint PLS-4R-U1
pins: 1, 2, 3, 4

## PLS-5
designator X?
Разъём штыревой; ComponentDescription: Разъём штыревой, PLS-5; ComponentTypе: Разъём штыревой
footprint PLS-5
pins: 1, 2, 3, 4, 5

## PLS-5R
designator X?
Разъём штыревой; ComponentDescription: Разъём штыревой, PLS-5R; ComponentTypе: Разъём штыревой
footprint PLS-5R
footprint PLS-5R(NO4PIN)
footprint PLS-5R(NO2PIN)
pins: 1, 2, 3, 4, 5

## PLS-5R_D1
designator X?
Разъём штыревой (угловой); ComponentDescription: Разъём штыревой, PLS-5R_D1; ComponentTypе: Разъём штыревой
footprint PLS-5R-D1
pins: 1, 2, 3, 4, 5

## PLS-5R_U1
designator X?
Разъём штыревой (угловой); ComponentDescription: Разъём штыревой, PLS-5R_U1; ComponentTypе: Разъём штыревой
footprint PLS-5R-U1
pins: 1, 2, 3, 4, 5

## PLS-5S
designator X?
Разъём штыревой (SMD); ComponentDescription: Разъём штыревой, PLS-5S; ComponentTypе: Разъём штыревой
footprint PLS-5S (Разъём PLS-5 (SMD))
pins: 1, 2, 3, 4, 5

## PLS-6
designator X?
Разъём штыревой; ComponentDescription: Разъём штыревой, PLS-6; ComponentTypе: Разъём штыревой
footprint PLS-6
pins: 1, 2, 3, 4, 5, 6

## PLS-6R_D1
designator X?
Разъём штыревой (угловой); ComponentDescription: Разъём штыревой, PLS-6R_D1; ComponentTypе: Разъём штыревой
footprint PLS-6R-D1
pins: 1, 2, 3, 4, 5, 6

## PLS-6R_U1
designator X?
Разъём штыревой (угловой); ComponentDescription: Разъём штыревой, PLS-6R_U1; ComponentTypе: Разъём штыревой
footprint PLS-6R-U1
pins: 1, 2, 3, 4, 5, 6

## PLS-7
designator X?
Разъём штыревой; ComponentDescription: Разъём штыревой, PLS-7; ComponentTypе: Разъём штыревой
footprint PLS-7
pins: 1, 2, 3, 4, 5, 6, 7

## PLS-7R_D1
designator X?
Разъём штыревой (угловой); ComponentDescription: Разъём штыревой, PLS-7R_D1; ComponentTypе: Разъём штыревой
footprint PLS-7R-D1
pins: 1, 2, 3, 4, 5, 6, 7

## PLS-7R_U1
designator X?
Разъём штыревой (угловой); ComponentDescription: Разъём штыревой, PLS-7R_U1; ComponentTypе: Разъём штыревой
footprint PLS-7R-U1
pins: 1, 2, 3, 4, 5, 6, 7

## PLS-8
designator X?
Разъём штыревой; ComponentDescription: Разъём штыревой, PLS-8; ComponentTypе: Разъём штыревой
footprint PLS-8
pins: 1, 2, 3, 4, 5, 6, 7, 8

## PLS-8R_D1
designator X?
Разъём штыревой (угловой); ComponentDescription: Разъём штыревой, PLS-8R_D1; ComponentTypе: Разъём штыревой
footprint PLS-8R-D1
pins: 1, 2, 3, 4, 5, 6, 7, 8

## PLS-8R_U1
designator X?
Разъём штыревой (угловой); ComponentDescription: Разъём штыревой, PLS-8R_U1; ComponentTypе: Разъём штыревой
footprint PLS-8R-U1
pins: 1, 2, 3, 4, 5, 6, 7, 8

## PLS-9
designator X?
Разъём штыревой; ComponentDescription: Разъём штыревой, PLS-9; ComponentTypе: Разъём штыревой
footprint PLS-9
pins: 1, 2, 3, 4, 5, 6, 7, 8, 9

## PLS-9R_D1
designator X?
Разъём штыревой (угловой); ComponentDescription: Разъём штыревой, PLS-9R_D1; ComponentTypе: Разъём штыревой
footprint PLS-9R-D1
pins: 1, 2, 3, 4, 5, 6, 7, 8, 9

## PLS-9R_U1
designator X?
Разъём штыревой (угловой); ComponentDescription: Разъём штыревой, PLS-9R_U1; ComponentTypе: Разъём штыревой
footprint PLS-9R-U1
pins: 1, 2, 3, 4, 5, 6, 7, 8, 9

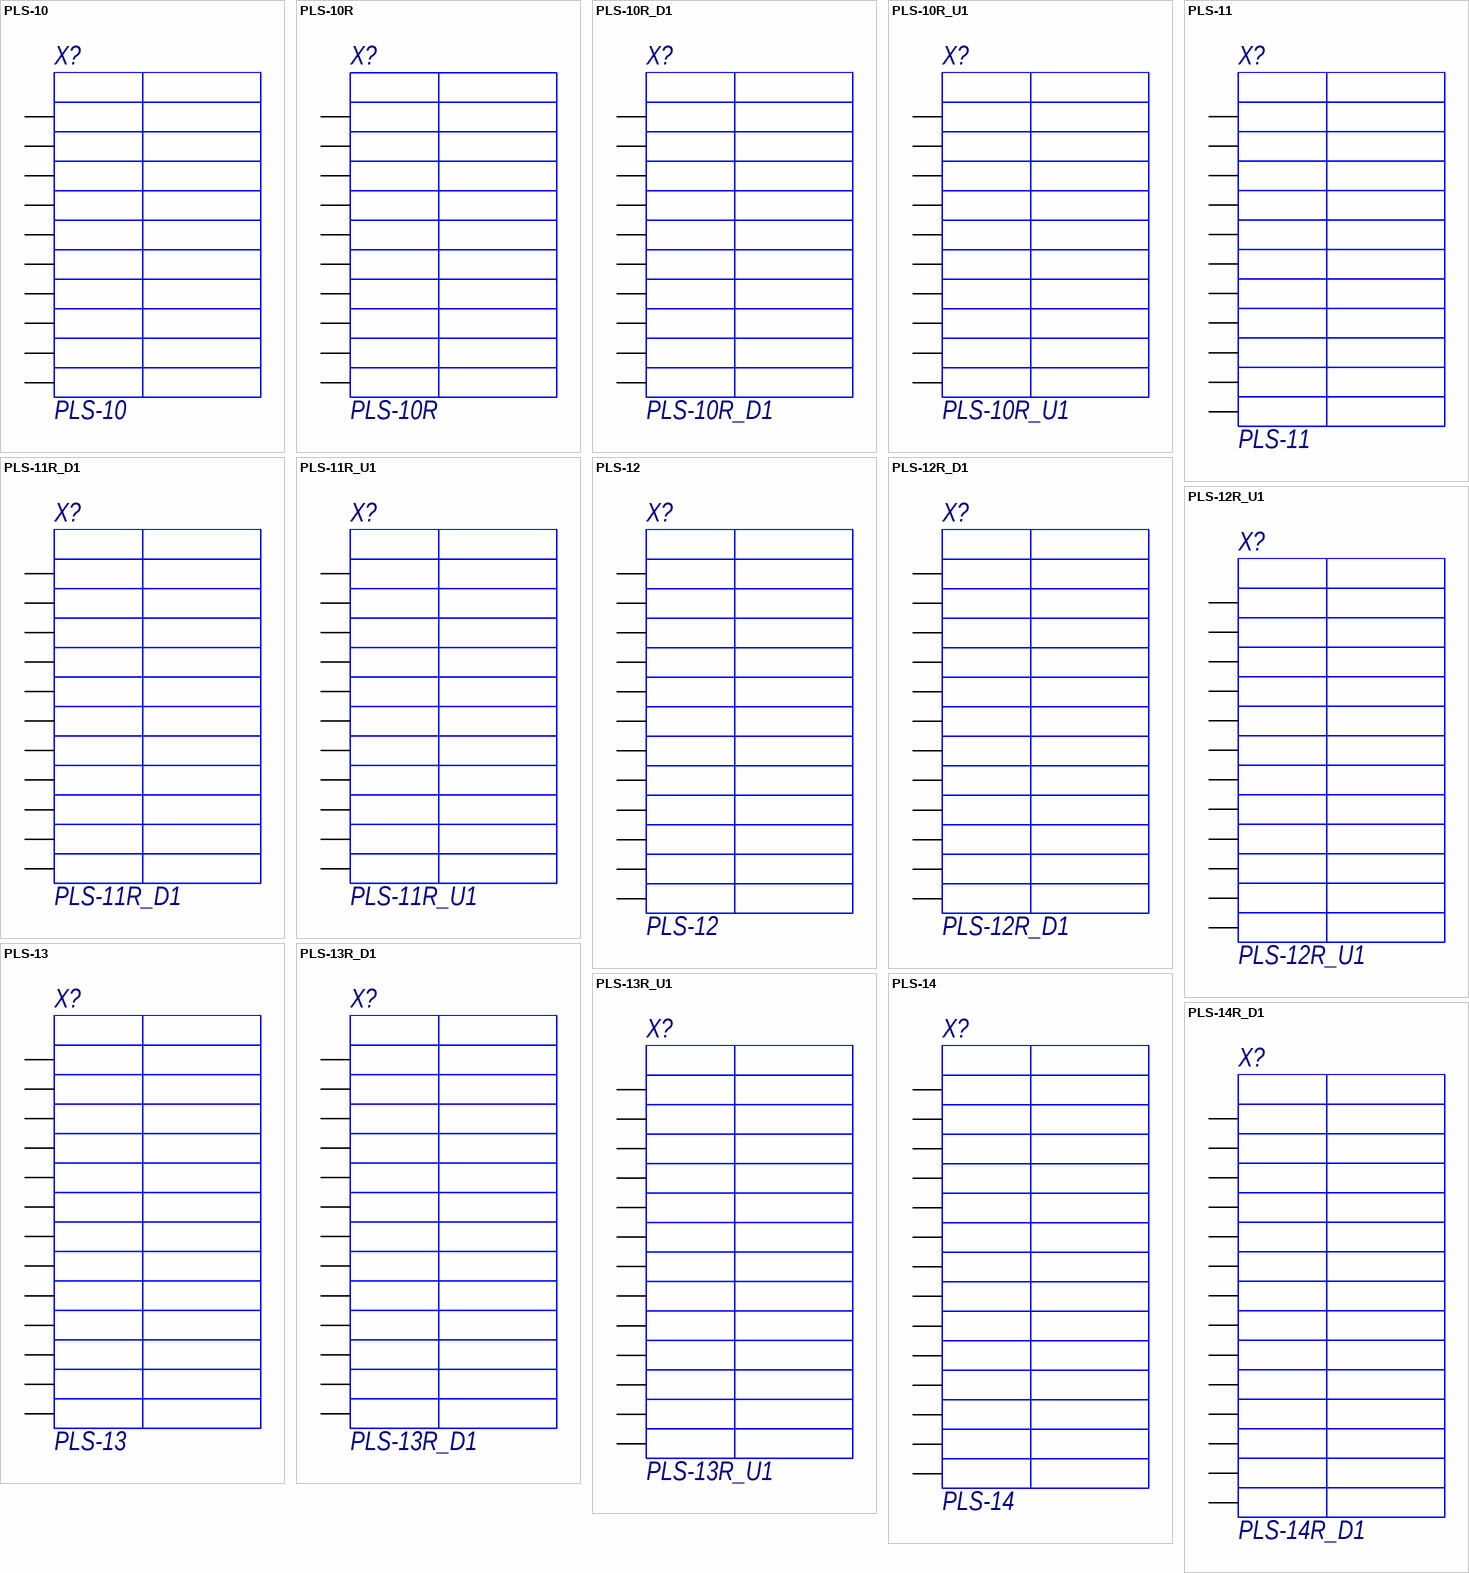
[diagram p6: symbols PLS-10 to PLS-14R_D1]

## PLS-10
designator X?
Разъём штыревой; ComponentDescription: Разъём штыревой, PLS-10; ComponentTypе: Разъём штыревой
footprint PLS-10
pins: 1, 2, 3, 4, 5, 6, 7, 8, 9, 10

## PLS-10R
designator X?
Разъём штыревой (угловой); ComponentDescription: Разъём штыревой (угловой), PLS-10R; ComponentTypе: Разъём штыревой (угловой)
footprint PLS-10R
pins: 1, 2, 3, 4, 5, 6, 7, 8, 9, 10

## PLS-10R_D1
designator X?
Разъём штыревой (угловой); ComponentDescription: Разъём штыревой, PLS-10R_D1; ComponentTypе: Разъём штыревой
footprint PLS-10R-D1
pins: 1, 2, 3, 4, 5, 6, 7, 8, 9, 10

## PLS-10R_U1
designator X?
Разъём штыревой (угловой); ComponentDescription: Разъём штыревой, PLS-10R_U1; ComponentTypе: Разъём штыревой
footprint PLS-10R-U1
pins: 1, 2, 3, 4, 5, 6, 7, 8, 9, 10

## PLS-11
designator X?
Разъём штыревой; ComponentDescription: Разъём штыревой, PLS-11; ComponentTypе: Разъём штыревой
footprint PLS-11
pins: 1, 2, 3, 4, 5, 6, 7, 8, 9, 10, 11

## PLS-11R_D1
designator X?
Разъём штыревой (угловой); ComponentDescription: Разъём штыревой, PLS-11R_D1; ComponentTypе: Разъём штыревой
footprint PLS-11R-D1
pins: 1, 2, 3, 4, 5, 6, 7, 8, 9, 10, 11

## PLS-11R_U1
designator X?
Разъём штыревой (угловой); ComponentDescription: Разъём штыревой, PLS-11R_U1; ComponentTypе: Разъём штыревой
footprint PLS-11R-U1
pins: 1, 2, 3, 4, 5, 6, 7, 8, 9, 10, 11

## PLS-12
designator X?
Разъём штыревой; ComponentDescription: Разъём штыревой, PLS-12; ComponentTypе: Разъём штыревой
footprint PLS-12
pins: 1, 2, 3, 4, 5, 6, 7, 8, 9, 10, 11, 12

## PLS-12R_D1
designator X?
Разъём штыревой (угловой); ComponentDescription: Разъём штыревой, PLS-12R_D1; ComponentTypе: Разъём штыревой
footprint PLS-12R-D1
pins: 1, 2, 3, 4, 5, 6, 7, 8, 9, 10, 11, 12

## PLS-12R_U1
designator X?
Разъём штыревой (угловой); ComponentDescription: Разъём штыревой, PLS-12R_U1; ComponentTypе: Разъём штыревой
footprint PLS-12R-U1
pins: 1, 2, 3, 4, 5, 6, 7, 8, 9, 10, 11, 12

## PLS-13
designator X?
Разъём штыревой; ComponentDescription: Разъём штыревой, PLS-13; ComponentTypе: Разъём штыревой
footprint PLS-13
pins: 1, 2, 3, 4, 5, 6, 7, 8, 9, 10, 11, 12, 13

## PLS-13R_D1
designator X?
Разъём штыревой (угловой); ComponentDescription: Разъём штыревой, PLS-13R_D1; ComponentTypе: Разъём штыревой
footprint PLS-13R-D1
pins: 1, 2, 3, 4, 5, 6, 7, 8, 9, 10, 11, 12, 13

## PLS-13R_U1
designator X?
Разъём штыревой (угловой); ComponentDescription: Разъём штыревой, PLS-13R_U1; ComponentTypе: Разъём штыревой
footprint PLS-13R-U1
pins: 1, 2, 3, 4, 5, 6, 7, 8, 9, 10, 11, 12, 13

## PLS-14
designator X?
Разъём штыревой; ComponentDescription: Разъём штыревой, PLS-14; ComponentTypе: Разъём штыревой
footprint PLS-14
pins: 1, 2, 3, 4, 5, 6, 7, 8, 9, 10, 11, 12, 13, 14

## PLS-14R_D1
designator X?
Разъём штыревой (угловой); ComponentDescription: Разъём штыревой, PLS-14R_D1; ComponentTypе: Разъём штыревой
footprint PLS-14R-D1
pins: 1, 2, 3, 4, 5, 6, 7, 8, 9, 10, 11, 12, 13, 14

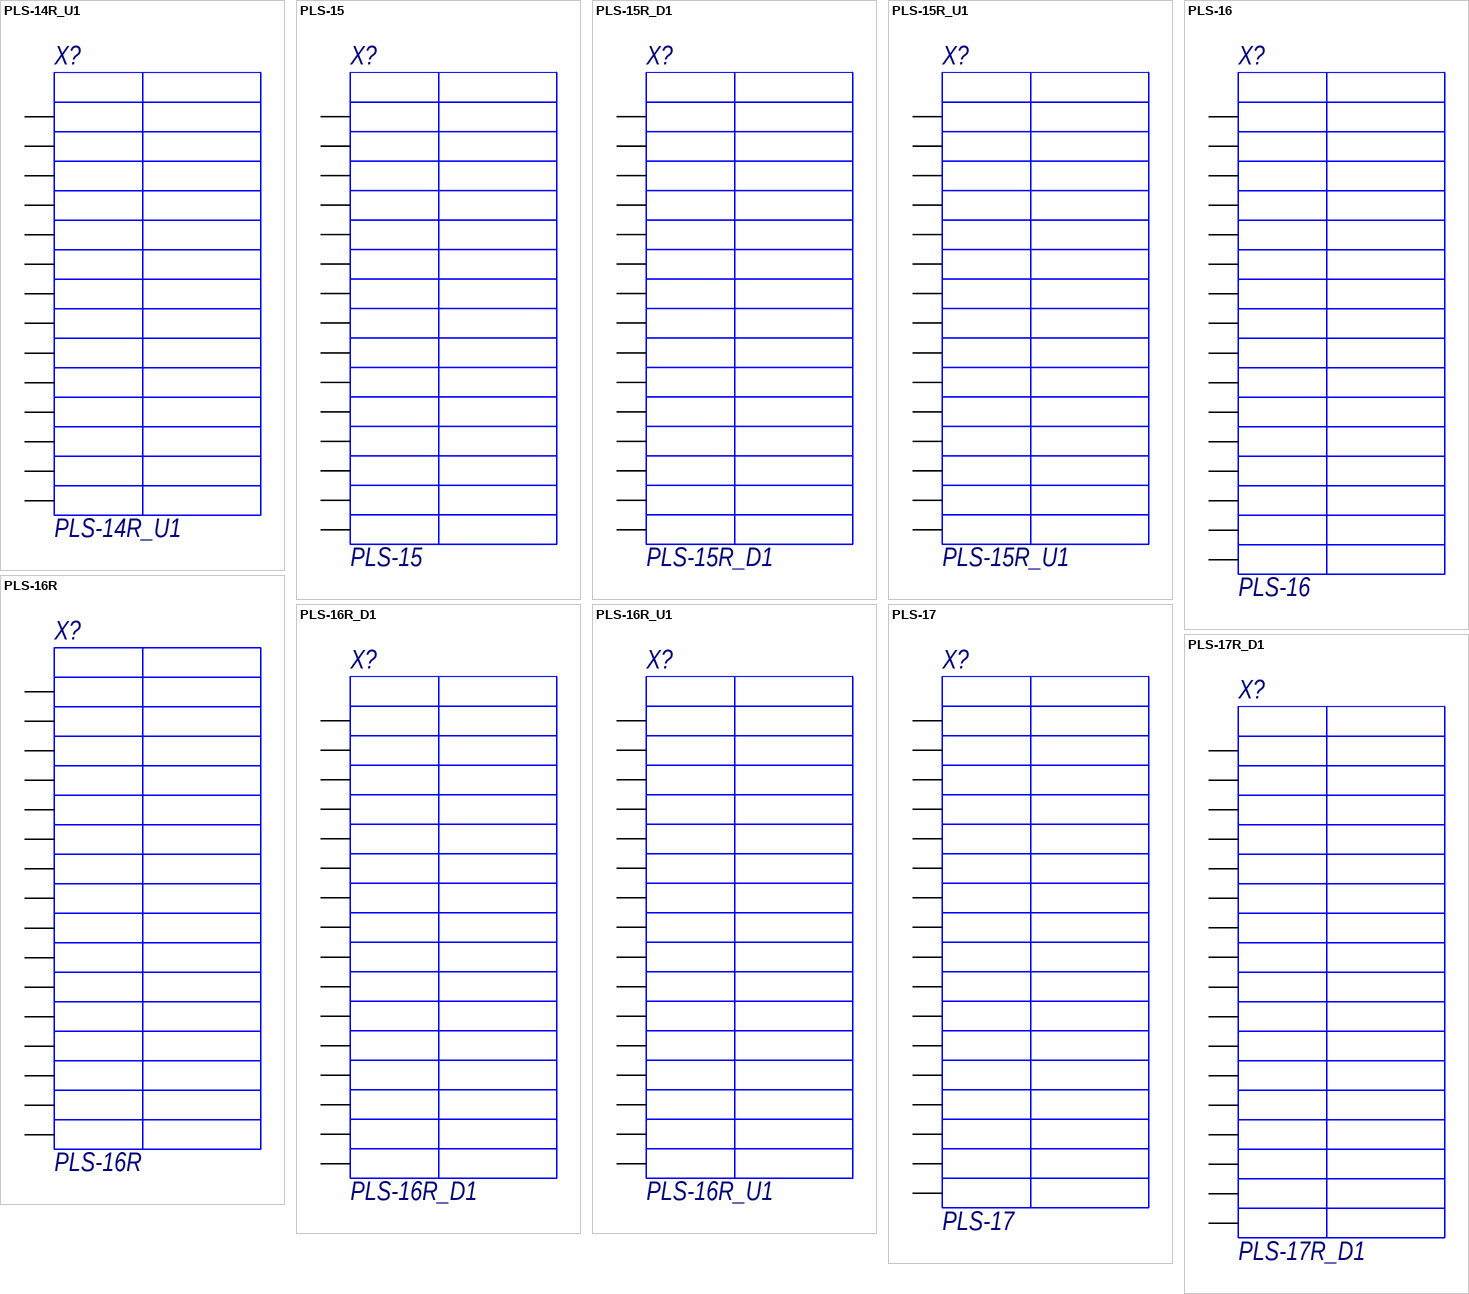
[diagram p7: symbols PLS-14R_U1 to PLS-17R_D1]

## PLS-14R_U1
designator X?
Разъём штыревой (угловой); ComponentDescription: Разъём штыревой, PLS-14R_U1; ComponentTypе: Разъём штыревой
footprint PLS-14R-U1
pins: 1, 2, 3, 4, 5, 6, 7, 8, 9, 10, 11, 12, 13, 14

## PLS-15
designator X?
Разъём штыревой; ComponentDescription: Разъём штыревой, PLS-15; ComponentTypе: Разъём штыревой
footprint PLS-15
pins: 1, 2, 3, 4, 5, 6, 7, 8, 9, 10, 11, 12, 13, 14, 15

## PLS-15R_D1
designator X?
Разъём штыревой (угловой); ComponentDescription: Разъём штыревой, PLS-15R_D1; ComponentTypе: Разъём штыревой
footprint PLS-15R-D1
pins: 1, 2, 3, 4, 5, 6, 7, 8, 9, 10, 11, 12, 13, 14, 15

## PLS-15R_U1
designator X?
Разъём штыревой (угловой); ComponentDescription: Разъём штыревой, PLS-15R_U1; ComponentTypе: Разъём штыревой
footprint PLS-15R-U1
pins: 1, 2, 3, 4, 5, 6, 7, 8, 9, 10, 11, 12, 13, 14, 15

## PLS-16
designator X?
Разъём штыревой; ComponentDescription: Разъём штыревой, PLS-16; ComponentTypе: Разъём штыревой
footprint PLS-16
pins: 1, 2, 3, 4, 5, 6, 7, 8, 9, 10, 11, 12, 13, 14, 15, 16

## PLS-16R
designator X?
Разъём штыревой (угловой); ComponentDescription: Разъём штыревой (угловой), PLS-16R; ComponentTypе: Разъём штыревой (угловой)
footprint PLS-16R
pins: 1, 2, 3, 4, 5, 6, 7, 8, 9, 10, 11, 12, 13, 14, 15, 16

## PLS-16R_D1
designator X?
Разъём штыревой (угловой); ComponentDescription: Разъём штыревой, PLS-16R_D1; ComponentTypе: Разъём штыревой
footprint PLS-16R-D1
pins: 1, 2, 3, 4, 5, 6, 7, 8, 9, 10, 11, 12, 13, 14, 15, 16

## PLS-16R_U1
designator X?
Разъём штыревой (угловой); ComponentDescription: Разъём штыревой, PLS-16R_U1; ComponentTypе: Разъём штыревой
footprint PLS-16R-U1
pins: 1, 2, 3, 4, 5, 6, 7, 8, 9, 10, 11, 12, 13, 14, 15, 16

## PLS-17
designator X?
Разъём штыревой; ComponentDescription: Разъём штыревой, PLS-17; ComponentTypе: Разъём штыревой
footprint PLS-17
pins: 1, 2, 3, 4, 5, 6, 7, 8, 9, 10, 11, 12, 13, 14, 15, 16, 17

## PLS-17R_D1
designator X?
Разъём штыревой (угловой); ComponentDescription: Разъём штыревой, PLS-17R_D1; ComponentTypе: Разъём штыревой
footprint PLS-17R-D1
pins: 1, 2, 3, 4, 5, 6, 7, 8, 9, 10, 11, 12, 13, 14, 15, 16, 17

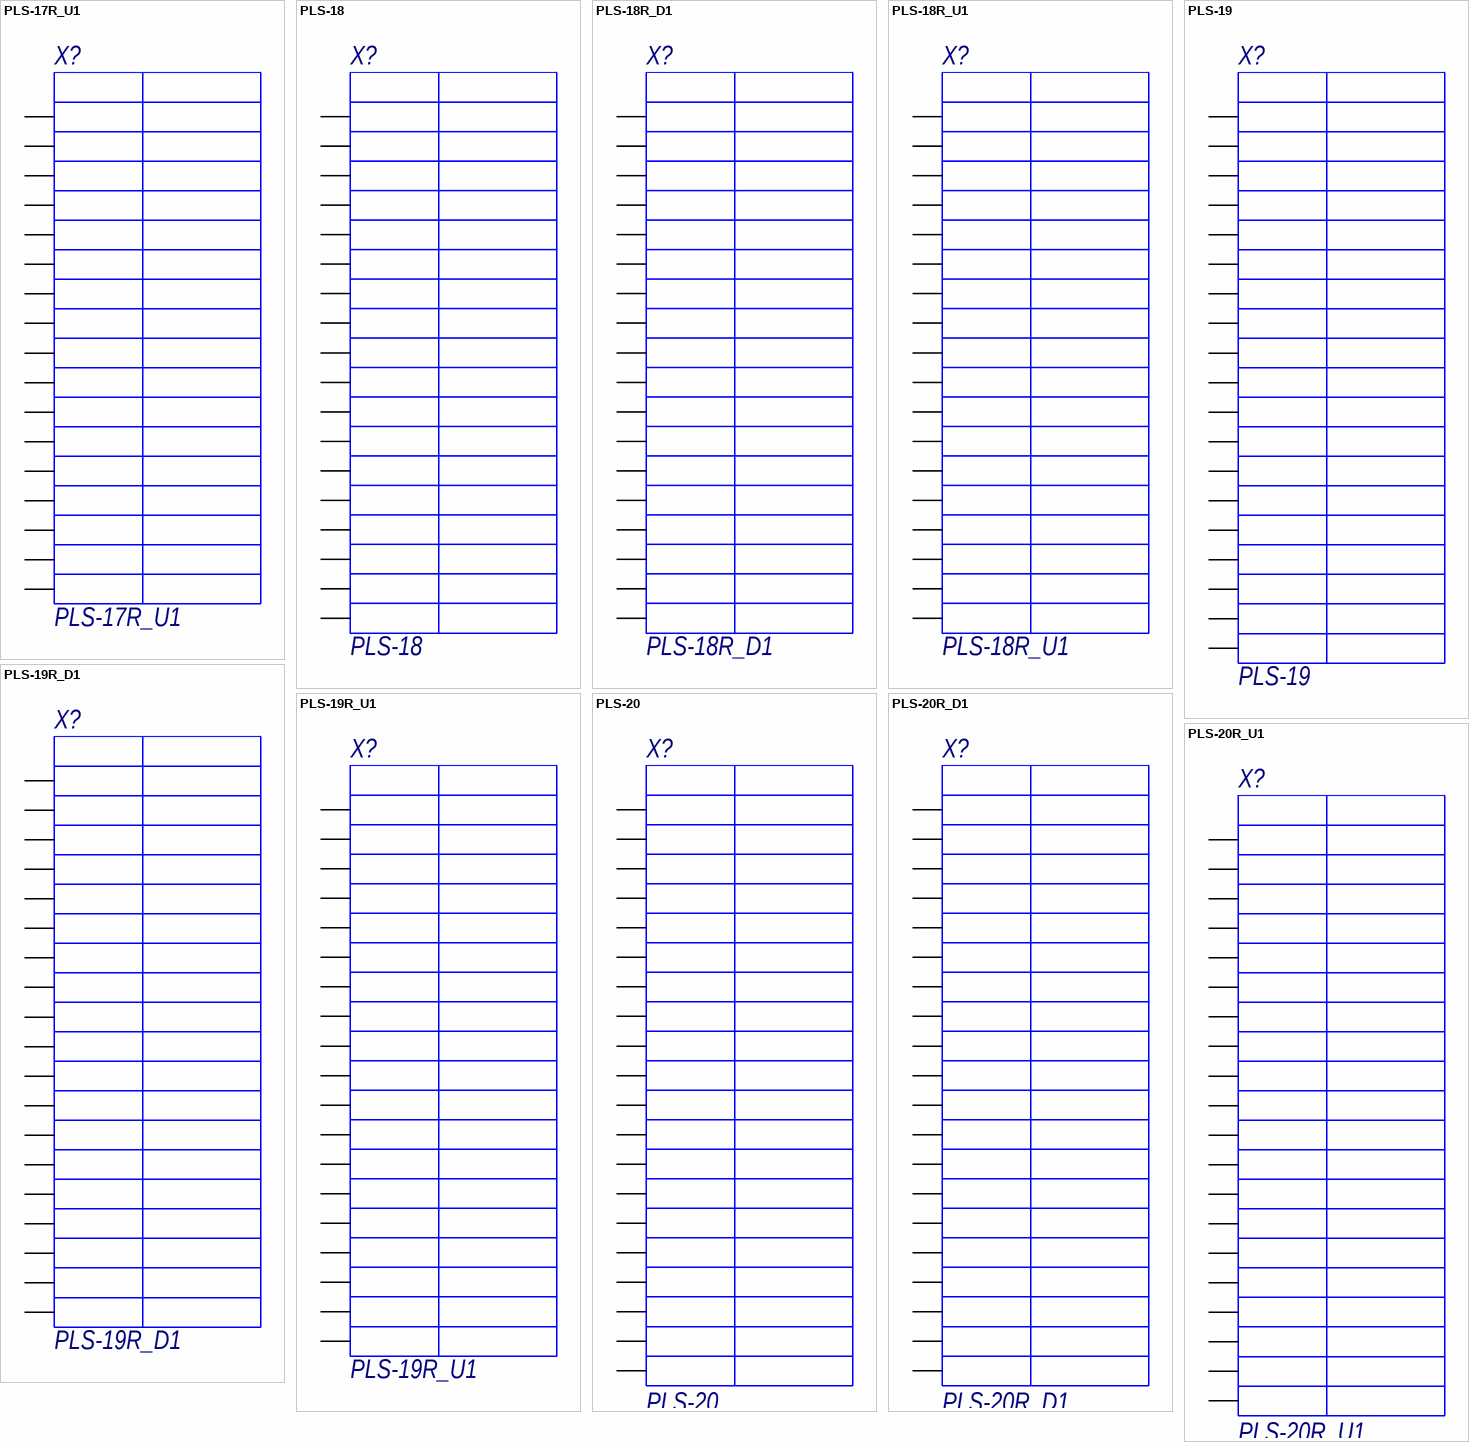
[diagram p8: symbols PLS-17R_U1 to PLS-20R_U1]

## PLS-17R_U1
designator X?
Разъём штыревой (угловой); ComponentDescription: Разъём штыревой, PLS-17R_U1; ComponentTypе: Разъём штыревой
footprint PLS-17R-U1
pins: 1, 2, 3, 4, 5, 6, 7, 8, 9, 10, 11, 12, 13, 14, 15, 16, 17

## PLS-18
designator X?
Разъём штыревой; ComponentDescription: Разъём штыревой, PLS-18; ComponentTypе: Разъём штыревой
footprint PLS-18
pins: 1, 2, 3, 4, 5, 6, 7, 8, 9, 10, 11, 12, 13, 14, 15, 16, 17, 18

## PLS-18R_D1
designator X?
Разъём штыревой (угловой); ComponentDescription: Разъём штыревой, PLS-18R_D1; ComponentTypе: Разъём штыревой
footprint PLS-18R-D1
pins: 1, 2, 3, 4, 5, 6, 7, 8, 9, 10, 11, 12, 13, 14, 15, 16, 17, 18

## PLS-18R_U1
designator X?
Разъём штыревой (угловой); ComponentDescription: Разъём штыревой, PLS-18R_U1; ComponentTypе: Разъём штыревой
footprint PLS-18R-U1
pins: 1, 2, 3, 4, 5, 6, 7, 8, 9, 10, 11, 12, 13, 14, 15, 16, 17, 18

## PLS-19
designator X?
Разъём штыревой; ComponentDescription: Разъём штыревой, PLS-19; ComponentTypе: Разъём штыревой
footprint PLS-19
pins: 1, 2, 3, 4, 5, 6, 7, 8, 9, 10, 11, 12, 13, 14, 15, 16, 17, 18, 19

## PLS-19R_D1
designator X?
Разъём штыревой (угловой); ComponentDescription: Разъём штыревой, PLS-19R_D1; ComponentTypе: Разъём штыревой
footprint PLS-19R-D1
pins: 1, 2, 3, 4, 5, 6, 7, 8, 9, 10, 11, 12, 13, 14, 15, 16, 17, 18, 19

## PLS-19R_U1
designator X?
Разъём штыревой (угловой); ComponentDescription: Разъём штыревой, PLS-19R_U1; ComponentTypе: Разъём штыревой
footprint PLS-19R-U1
pins: 1, 2, 3, 4, 5, 6, 7, 8, 9, 10, 11, 12, 13, 14, 15, 16, 17, 18, 19

## PLS-20
designator X?
Разъём штыревой; ComponentDescription: Разъём штыревой, PLS-20; ComponentTypе: Разъём штыревой
footprint PLS-20
pins: 1, 2, 3, 4, 5, 6, 7, 8, 9, 10, 11, 12, 13, 14, 15, 16, 17, 18, 19, 20

## PLS-20R_D1
designator X?
Разъём штыревой (угловой); ComponentDescription: Разъём штыревой, PLS-20R_D1; ComponentTypе: Разъём штыревой
footprint PLS-20R-D1
pins: 1, 2, 3, 4, 5, 6, 7, 8, 9, 10, 11, 12, 13, 14, 15, 16, 17, 18, 19, 20

## PLS-20R_U1
designator X?
Разъём штыревой (угловой); ComponentDescription: Разъём штыревой, PLS-20R_U1; ComponentTypе: Разъём штыревой
footprint PLS-20R-U1
pins: 1, 2, 3, 4, 5, 6, 7, 8, 9, 10, 11, 12, 13, 14, 15, 16, 17, 18, 19, 20

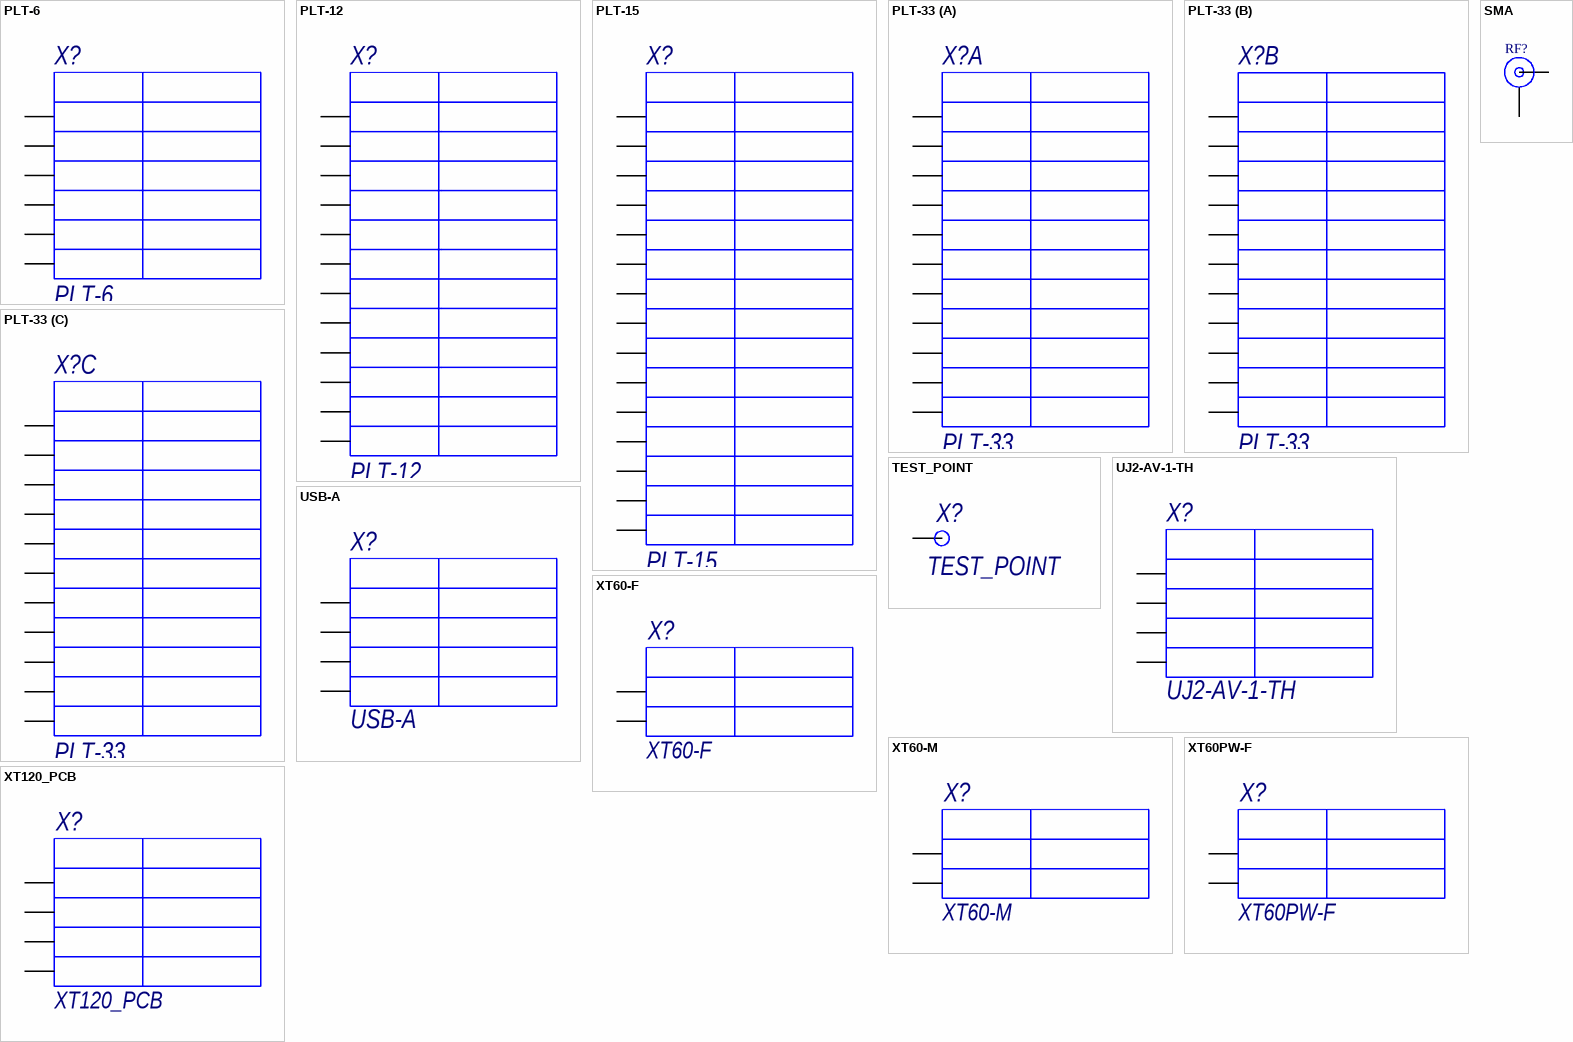
[diagram p9: symbols PLT-6 to XT120_PCB]

## PLT-6
designator X?
Разъём штыревой; ComponentDescription: Разъём штыревой, PLT-6; ComponentTypе: Разъём штыревой
footprint PLT-6
pins: 1, 2, 3, 4, 5, 6

## PLT-12
designator X?
Разъём штыревой; ComponentDescription: Разъём штыревой, PLT-12; ComponentTypе: Разъём штыревой
footprint PLT-12
pins: 1, 2, 3, 4, 5, 6, 7, 8, 9, 10, 11, 12

## PLT-15
designator X?
Разъём штыревой; ComponentDescription: Разъём штыревой, PLT-15; ComponentTypе: Разъём штыревой
footprint PLT-15
pins: 1, 2, 3, 4, 5, 6, 7, 8, 9, 10, 11, 12, 13, 14, 15

## PLT-33
designator X?
Разъём штыревой; ComponentDescription: Разъём штыревой, PLT-33; ComponentTypе: Разъём штыревой
footprint PLT-33
part A pins: 1, 2, 3, 4, 5, 6, 7, 8, 9, 10, 11
part B pins: 12, 13, 14, 15, 16, 17, 18, 19, 20, 21, 22
part C pins: 23, 24, 25, 26, 27, 28, 29, 30, 31, 32, 33

## SMA
designator RF?, comment Разъём SMA  (value not drawn)
Разъём антенный; PartNumber: 32K249-400L5; Design Note: Footprint in library is a generic example - only application specific footprint delivers High Performance; ComponentDescription: Разъём антенный, Разъём SMA; DatasheetVersion: b00; PackageVersion: b00; PackageReference: 32K249-400L5; PackageDescription: SMA Right Angle Jack, 14.8 x 6.35 x 9.7 mm; Mounting Technology: Through Hole; ComponentLink1Description: Manufacturer URL; ComponentLink1URL: http://www.rosenberger.de; ComponentLink2Description: Datasheet; ComponentLink2URL: http://rosenberger.de/ok/images/documents/db/32K249-400L5.pdf; ComponentLink3Description: Package Specification; ComponentLink3URL: http://rosenberger.de/ok/images/documents/db/32K249-400L5.pdf; ComponentLink4Description: Series Overview / Design Note; ComponentLink4URL: http://rosenberger.de/ok/images/documents/spez/32.pdf; ComponentLink5Description: Webshop / RFQ; ComponentLink5URL: http://www.rosenberger.com/en/contact/sales/; ComponentTypе: Разъём антенный
footprint ROS-32K249-400L5_V
footprint SMA-5-1814832-1 (SMA Straight Jack)
pins: 1, MH

## TEST_POINT
designator X?  (net tie, no BOM)
Тестовый контакт
footprint TEST_POINT (Контак на плате, диаметр 0.6 мм)
pins: 1

## UJ2-AV-1-TH
designator X?
Разъём USB (вертикальный); ComponentDescription: Разъём USB (вертикальный), UJ2-AV-1-TH; ComponentTypе: Разъём USB (вертикальный)
footprint USB-A-VERTICAL
pins: 1, 2, 3, 4

## USB-A
designator X?
Разъём USB; ComponentDescription: Разъём USB, USB-A; ComponentTypе: Разъём USB
footprint USB-A
pins: 1, 2, 3, 4

## XT60-F
designator X?
Разъем; ComponentDescription: Разъём, XT60-F; ComponentTypе: Разъём
footprint XT60-F AMASS (Вилка; питания DC; XT60; "мама"; PIN: 2; на провод; под пайку; 30А)
pins: 1, 2

## XT60-M
designator X?
Разъем; ComponentDescription: Разъём, XT60-M; ComponentTypе: Разъём
footprint XT60-M AMASS (Вилка; питания DC; XT60; "папа"; PIN: 2; на провод; под пайку; 30А)
pins: 1, 2

## XT60PW-F
designator X?
Разъем; ComponentDescription: Разъём, XT60PW-F; ComponentTypе: Разъём
footprint XT60PW-F AMASS (Гнездо; питания DC; XT60; "мама"; PIN: 2; на PCB; THT; Цвет: желтый)
pins: 1, 2

## XT120_PCB
designator X?
Разъем; ComponentDescription: Разъём, XT120_PCB; ComponentTypе: Разъём
footprint XT120_PCB
pins: 1, 2, 3, 4